# Altium schematic symbol library BWRC.SchLib: 201 symbols (part 3 of 6)
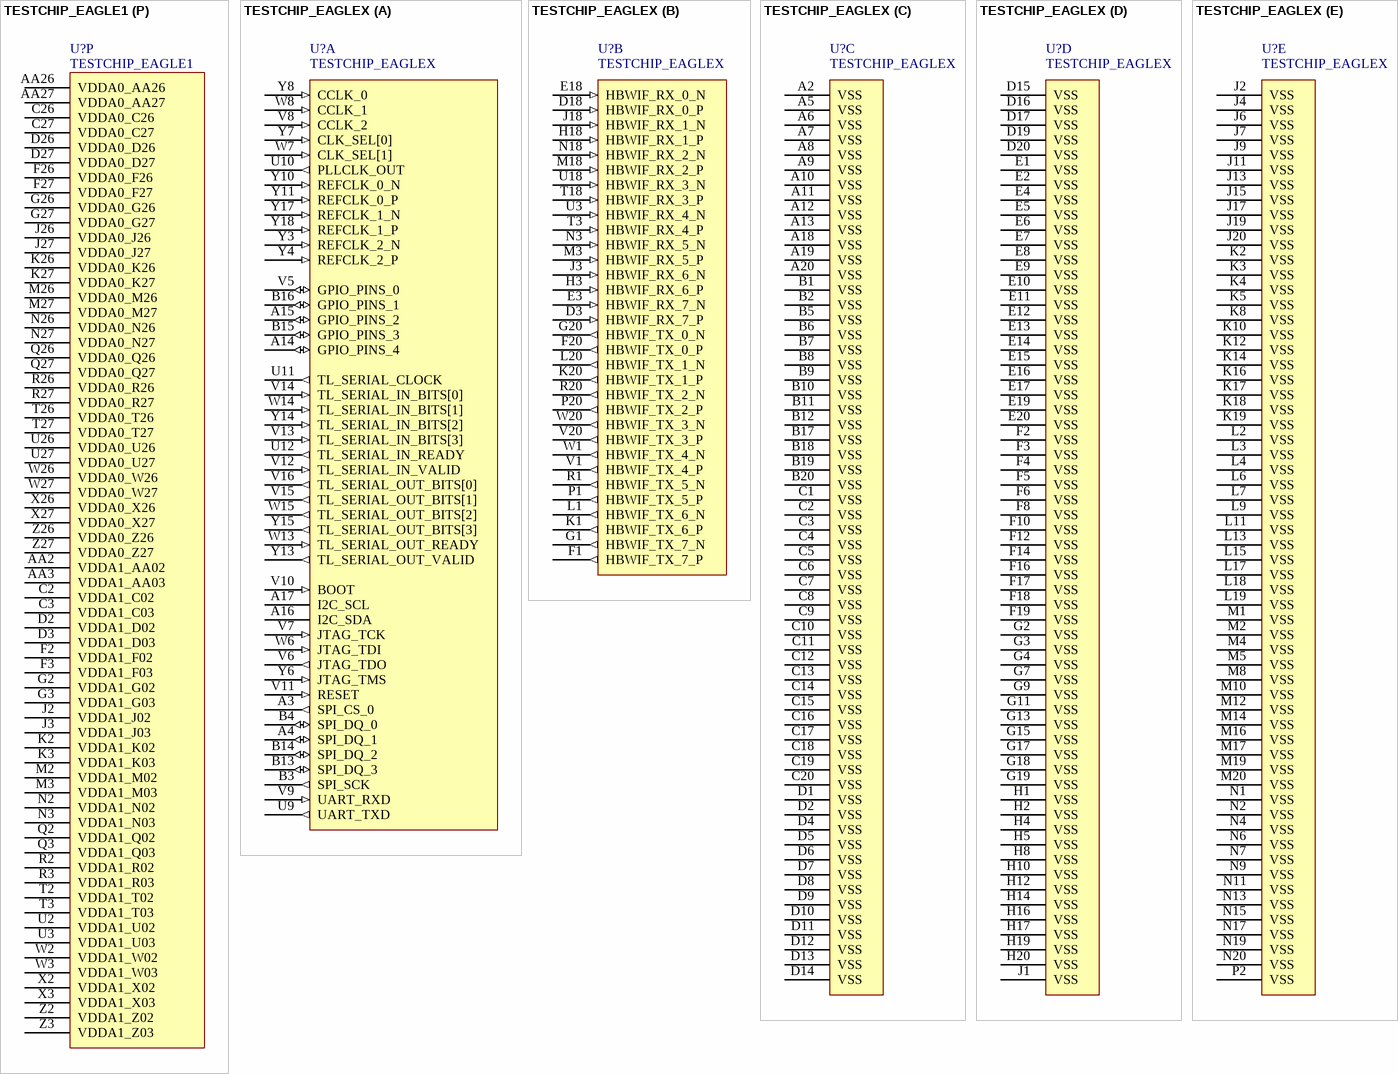
[diagram p33: symbols TESTCHIP_EAGLE1 to TESTCHIP_EAGLEX]

## TESTCHIP_EAGLE1
designator U?
TESTCHIP EAGLE1
part A pins: A2 gpio_0_pins_13 (io) "General-Purpose Programmable IO", A3 spi_cs_0 (out) "SPI Chip Select", A4 spi_dq_1 (in) "SPI MISO (Master In, Slave Out)", A5 spi_dq_0 (out) "SPI MOSI (Master Out, Slave In)", A6 spi_sck (out) "SPI Clock", A7 i2c_scl (out) "I2C Clock", A8 i2c_sda (out) "I2C Data", A9 boot (in) "Active-High Boot From SD Card", A10 reset (in) "SPI Reset", A11 jtag_tdi (in) "JTAG Test Data In", A12 jtag_tdo (out) "JTAG Test Data Out", A13 jtag_tck (in) "JTAG Clock", A14 jtag_tms (in) "JTAG Test Mode Select", A15 gpio_0_pins_12 (io) "General-Purpose Programmable IO", A16 gpio_0_pins_11 (io) "General-Purpose Programmable IO", A17 gpio_0_pins_10 (io) "General-Purpose Programmable IO", A18 gpio_0_pins_9 (io) "General-Purpose Programmable IO", A19 gpio_0_pins_8 (io) "General-Purpose Programmable IO", A20 gpio_0_pins_7 (io) "General-Purpose Programmable IO", A21 gpio_0_pins_6 (io) "General-Purpose Programmable IO", A22 gpio_0_pins_5 (io) "General-Purpose Programmable IO", A23 gpio_0_pins_4 (io) "General-Purpose Programmable IO", A24 gpio_0_pins_3 (io) "General-Purpose Programmable IO", A25 gpio_0_pins_2 (io) "General-Purpose Programmable IO", A26 gpio_0_pins_1 (io) "General-Purpose Programmable IO", A27 gpio_0_pins_0 (io) "General-Purpose Programmable IO", AC1 gpio_0_pins_14 (io) "General-Purpose Programmable IO", AC9 clk_sel[1] (in) "Uncluster Clock Select Bit 1", AC10 tl_serial_out_ready (in) "LBWIF Data Out Ready", AC13 tl_serial_out_valid (out) "LBWIF Data Out Valid", AC17 tl_serial_in_valid (in) "LBWIF Data In Valid", AC21 tl_serial_in_ready (out) "LBWIF Data In Ready", AC28 tl_serial_clock (out) "LBWIF Clock", AD3 refclk_1_n (in) "HBWIF Bank 1 Reference Clock (+)", AD4 refclk_1_p (in) "HBWIF Bank 1 Reference Clock (-)", AD6 refclk_2_n (in) "PLL Reference Clock (+)", AD7 refclk_2_p (in) "PLL Reference Clock (-)", AD9 pllclk_out (out) "PLL Clock Out", AD10 clk_sel[0] (in) "Uncluster Clock Select Bit 0", AD11 cclk_2 (in) "Cluster Backup Clock 2", AD12 cclk_1 (in) "Cluster Backup Clock 1", AD13 cclk_0 (in) "Cluster Backup Clock 0", AD14 uart_txd (out) "UART TX", AD15 uart_rxd (in) "UART RX", AD16 tl_serial_in_bits[3] (in) "LBWIF Data In Bit 3", AD17 tl_serial_in_bits[2] (in) "LBWIF Data In Bit 2", AD18 tl_serial_in_bits[1] (in) "LBWIF Data In Bit 1", AD19 tl_serial_in_bits[0] (in) "LBWIF Data In Bit 0", AD20 tl_serial_out_bits[3] (out) "LBWIF Data Out Bit 3", AD21 tl_serial_out_bits[2] (out) "LBWIF Data Out Bit 2", AD22 tl_serial_out_bits[1] (out) "LBWIF Data Out Bit 1", AD23 tl_serial_out_bits[0] (out) "LBWIF Data Out Bit 0", AD25 refclk_0_n (in) "HBWIF Bank 0 Reference Clock (+)", AD26 refclk_0_p (in) "HBWIF Bank 0 Reference Clock (-)"
part B pins: AA1 rx_7_n (in) "HBWIF RX Lane 7 (-)", AA28 rx_3_n (in) "HBWIF RX Lane 3 (-)", C1 tx_4_p (out) "HBWIF TX Lane 4 (+)", C28 tx_0_p (out) "HBWIF TX Lane 0 (+)", D1 tx_4_n (out) "HBWIF TX Lane 4 (-)", D28 tx_0_n (out) "HBWIF TX Lane 0 (-)", F1 rx_4_p (in) "HBWIF RX Lane 4 (+)", F28 rx_0_p (in) "HBWIF RX Lane 0 (+)", G1 rx_4_n (in) "HBWIF RX Lane 4 (-)", G28 rx_0_n (in) "HBWIF RX Lane 0 (-)", J1 tx_5_p (out) "HBWIF TX Lane 5 (+)", J28 tx_1_p (out) "HBWIF TX Lane 1 (+)", K1 tx_5_n (out) "HBWIF TX Lane 5 (-)", K28 tx_1_n (out) "HBWIF TX Lane 1 (-)", M1 rx_5_p (in) "HBWIF RX Lane 5 (+)", M28 rx_1_p (in) "HBWIF RX Lane 1 (+)", N1 rx_5_n (in) "HBWIF RX Lane 5 (-)", N28 rx_1_n (in) "HBWIF RX Lane 1 (-)", Q1 tx_6_p (out) "HBWIF TX Lane 6 (+)", Q28 tx_2_p (out) "HBWIF TX Lane 2 (+)", R1 tx_6_n (out) "HBWIF TX Lane 6 (-)", R28 tx_2_n (out) "HBWIF TX Lane 2 (-)", T1 rx_6_p (in) "HBWIF RX Lane 6 (+)", T28 rx_2_p (in) "HBWIF RX Lane 2 (+)", U1 rx_6_n (in) "HBWIF RX Lane 6 (-)", U28 rx_2_n (in) "HBWIF RX Lane 2 (-)", W1 tx_7_p (out) "HBWIF TX Lane 7 (+)", W28 tx_3_p (out) "HBWIF TX Lane 3 (+)", X1 tx_7_n (out) "HBWIF TX Lane 7 (-)", X28 tx_3_n (out) "HBWIF TX Lane 3 (-)", Z1 rx_7_p (in) "HBWIF RX Lane 7 (+)", Z28 rx_3_p (in) "HBWIF RX Lane 3 (+)"
part C pins: AA4 GND_AA04 (power) "Ground bump (0.0V)", AA25 GND_AA25 (power) "Ground bump (0.0V)", AB1 GND_AB01 (power) "Ground bump (0.0V)", AB28 GND_AB28 (power) "Ground bump (0.0V)", AC2 GND_AC02 (power) "Ground bump (0.0V)", AC3 GND_AC03 (power) "Ground bump (0.0V)", AC4 GND_AC04 (power) "Ground bump (0.0V)", AC5 GND_AC05 (power) "Ground bump (0.0V)", AC6 GND_AC06 (power) "Ground bump (0.0V)", AC7 GND_AC07 (power) "Ground bump (0.0V)", AC8 GND_AC08 (power) "Ground bump (0.0V)", AC11 GND_AC11 (power) "Ground bump (0.0V)", AC12 GND_AC12 (power) "Ground bump (0.0V)", AC14 GND_AC14 (power) "Ground bump (0.0V)", AC15 GND_AC15 (power) "Ground bump (0.0V)", AC16 GND_AC16 (power) "Ground bump (0.0V)", AC18 GND_AC18 (power) "Ground bump (0.0V)", AC19 GND_AC19 (power) "Ground bump (0.0V)", AC20 GND_AC20 (power) "Ground bump (0.0V)", AC22 GND_AC22 (power) "Ground bump (0.0V)", AC23 GND_AC23 (power) "Ground bump (0.0V)", AC24 GND_AC24 (power) "Ground bump (0.0V)", AC25 GND_AC25 (power) "Ground bump (0.0V)", AC26 GND_AC26 (power) "Ground bump (0.0V)", AC27 GND_AC27 (power) "Ground bump (0.0V)", AD2 GND_AD02 (power) "Ground bump (0.0V)", AD5 GND_AD05 (power) "Ground bump (0.0V)", AD8 GND_AD08 (power) "Ground bump (0.0V)", AD24 GND_AD24 (power) "Ground bump (0.0V)", AD27 GND_AD27 (power) "Ground bump (0.0V)", B1 GND_B01 (power) "Ground bump (0.0V)", B2 GND_B02 (power) "Ground bump (0.0V)", B3 GND_B03 (power) "Ground bump (0.0V)", B4 GND_B04 (power) "Ground bump (0.0V)", B5 GND_B05 (power) "Ground bump (0.0V)", B6 GND_B06 (power) "Ground bump (0.0V)", B7 GND_B07 (power) "Ground bump (0.0V)", B8 GND_B08 (power) "Ground bump (0.0V)", B9 GND_B09 (power) "Ground bump (0.0V)", B10 GND_B10 (power) "Ground bump (0.0V)", B11 GND_B11 (power) "Ground bump (0.0V)", B12 GND_B12 (power) "Ground bump (0.0V)", B13 GND_B13 (power) "Ground bump (0.0V)", B14 GND_B14 (power) "Ground bump (0.0V)", B15 GND_B15 (power) "Ground bump (0.0V)", B16 GND_B16 (power) "Ground bump (0.0V)", B17 GND_B17 (power) "Ground bump (0.0V)", B18 GND_B18 (power) "Ground bump (0.0V)", B19 GND_B19 (power) "Ground bump (0.0V)", B20 GND_B20 (power) "Ground bump (0.0V)"
part D pins: B21 GND_B21 (power) "Ground bump (0.0V)", B22 GND_B22 (power) "Ground bump (0.0V)", B23 GND_B23 (power) "Ground bump (0.0V)", B24 GND_B24 (power) "Ground bump (0.0V)", B25 GND_B25 (power) "Ground bump (0.0V)", B26 GND_B26 (power) "Ground bump (0.0V)", B27 GND_B27 (power) "Ground bump (0.0V)", B28 GND_B28 (power) "Ground bump (0.0V)", C4 GND_C04 (power) "Ground bump (0.0V)", C13 GND_C13 (power) "Ground bump (0.0V)", C14 GND_C14 (power) "Ground bump (0.0V)", C15 GND_C15 (power) "Ground bump (0.0V)", C16 GND_C16 (power) "Ground bump (0.0V)", C25 GND_C25 (power) "Ground bump (0.0V)", D4 GND_D04 (power) "Ground bump (0.0V)", D13 GND_D13 (power) "Ground bump (0.0V)", D14 GND_D14 (power) "Ground bump (0.0V)", D15 GND_D15 (power) "Ground bump (0.0V)", D16 GND_D16 (power) "Ground bump (0.0V)", D25 GND_D25 (power) "Ground bump (0.0V)", E1 GND_E01 (power) "Ground bump (0.0V)", E7 GND_E07 (power) "Ground bump (0.0V)", E8 GND_E08 (power) "Ground bump (0.0V)", E11 GND_E11 (power) "Ground bump (0.0V)", E12 GND_E12 (power) "Ground bump (0.0V)", E15 GND_E15 (power) "Ground bump (0.0V)", E16 GND_E16 (power) "Ground bump (0.0V)", E19 GND_E19 (power) "Ground bump (0.0V)", E20 GND_E20 (power) "Ground bump (0.0V)", E28 GND_E28 (power) "Ground bump (0.0V)", F4 GND_F04 (power) "Ground bump (0.0V)", F7 GND_F07 (power) "Ground bump (0.0V)", F8 GND_F08 (power) "Ground bump (0.0V)", F11 GND_F11 (power) "Ground bump (0.0V)", F12 GND_F12 (power) "Ground bump (0.0V)", F15 GND_F15 (power) "Ground bump (0.0V)", F16 GND_F16 (power) "Ground bump (0.0V)", F19 GND_F19 (power) "Ground bump (0.0V)", F20 GND_F20 (power) "Ground bump (0.0V)", F25 GND_F25 (power) "Ground bump (0.0V)", G4 GND_G04 (power) "Ground bump (0.0V)", G7 GND_G07 (power) "Ground bump (0.0V)", G8 GND_G08 (power) "Ground bump (0.0V)", G11 GND_G11 (power) "Ground bump (0.0V)", G12 GND_G12 (power) "Ground bump (0.0V)", G15 GND_G15 (power) "Ground bump (0.0V)", G16 GND_G16 (power) "Ground bump (0.0V)", G19 GND_G19 (power) "Ground bump (0.0V)", G20 GND_G20 (power) "Ground bump (0.0V)", G25 GND_G25 (power) "Ground bump (0.0V)"
part E pins: H1 GND_H01 (power) "Ground bump (0.0V)", H7 GND_H07 (power) "Ground bump (0.0V)", H8 GND_H08 (power) "Ground bump (0.0V)", H11 GND_H11 (power) "Ground bump (0.0V)", H12 GND_H12 (power) "Ground bump (0.0V)", H15 GND_H15 (power) "Ground bump (0.0V)", H16 GND_H16 (power) "Ground bump (0.0V)", H19 GND_H19 (power) "Ground bump (0.0V)", H20 GND_H20 (power) "Ground bump (0.0V)", H28 GND_H28 (power) "Ground bump (0.0V)", J4 GND_J04 (power) "Ground bump (0.0V)", J5 GND_J05 (power) "Ground bump (0.0V)", J6 GND_J06 (power) "Ground bump (0.0V)", J9 GND_J09 (power) "Ground bump (0.0V)", J10 GND_J10 (power) "Ground bump (0.0V)", J13 GND_J13 (power) "Ground bump (0.0V)", J14 GND_J14 (power) "Ground bump (0.0V)", J17 GND_J17 (power) "Ground bump (0.0V)", J18 GND_J18 (power) "Ground bump (0.0V)", J21 GND_J21 (power) "Ground bump (0.0V)", J22 GND_J22 (power) "Ground bump (0.0V)", J23 GND_J23 (power) "Ground bump (0.0V)", J24 GND_J24 (power) "Ground bump (0.0V)", J25 GND_J25 (power) "Ground bump (0.0V)", K4 GND_K04 (power) "Ground bump (0.0V)", K5 GND_K05 (power) "Ground bump (0.0V)", K6 GND_K06 (power) "Ground bump (0.0V)", K9 GND_K09 (power) "Ground bump (0.0V)", K10 GND_K10 (power) "Ground bump (0.0V)", K13 GND_K13 (power) "Ground bump (0.0V)", K14 GND_K14 (power) "Ground bump (0.0V)", K17 GND_K17 (power) "Ground bump (0.0V)", K18 GND_K18 (power) "Ground bump (0.0V)", K21 GND_K21 (power) "Ground bump (0.0V)", K22 GND_K22 (power) "Ground bump (0.0V)", K23 GND_K23 (power) "Ground bump (0.0V)", K24 GND_K24 (power) "Ground bump (0.0V)", K25 GND_K25 (power) "Ground bump (0.0V)", L1 GND_L01 (power) "Ground bump (0.0V)", L5 GND_L05 (power) "Ground bump (0.0V)", L6 GND_L06 (power) "Ground bump (0.0V)", L9 GND_L09 (power) "Ground bump (0.0V)", L10 GND_L10 (power) "Ground bump (0.0V)", L13 GND_L13 (power) "Ground bump (0.0V)", L14 GND_L14 (power) "Ground bump (0.0V)", L17 GND_L17 (power) "Ground bump (0.0V)", L18 GND_L18 (power) "Ground bump (0.0V)", L21 GND_L21 (power) "Ground bump (0.0V)", L22 GND_L22 (power) "Ground bump (0.0V)", L23 GND_L23 (power) "Ground bump (0.0V)"
part F pins: L24 GND_L24 (power) "Ground bump (0.0V)", L28 GND_L28 (power) "Ground bump (0.0V)", M4 GND_M04 (power) "Ground bump (0.0V)", M5 GND_M05 (power) "Ground bump (0.0V)", M6 GND_M06 (power) "Ground bump (0.0V)", M9 GND_M09 (power) "Ground bump (0.0V)", M10 GND_M10 (power) "Ground bump (0.0V)", M13 GND_M13 (power) "Ground bump (0.0V)", M14 GND_M14 (power) "Ground bump (0.0V)", M17 GND_M17 (power) "Ground bump (0.0V)", M18 GND_M18 (power) "Ground bump (0.0V)", M21 GND_M21 (power) "Ground bump (0.0V)", M22 GND_M22 (power) "Ground bump (0.0V)", M23 GND_M23 (power) "Ground bump (0.0V)", M24 GND_M24 (power) "Ground bump (0.0V)", M25 GND_M25 (power) "Ground bump (0.0V)", N4 GND_N04 (power) "Ground bump (0.0V)", N7 GND_N07 (power) "Ground bump (0.0V)", N8 GND_N08 (power) "Ground bump (0.0V)", N11 GND_N11 (power) "Ground bump (0.0V)", N12 GND_N12 (power) "Ground bump (0.0V)", N15 GND_N15 (power) "Ground bump (0.0V)", N16 GND_N16 (power) "Ground bump (0.0V)", N19 GND_N19 (power) "Ground bump (0.0V)", N20 GND_N20 (power) "Ground bump (0.0V)", N25 GND_N25 (power) "Ground bump (0.0V)", P1 GND_P01 (power) "Ground bump (0.0V)", P7 GND_P07 (power) "Ground bump (0.0V)", P8 GND_P08 (power) "Ground bump (0.0V)", P11 GND_P11 (power) "Ground bump (0.0V)", P12 GND_P12 (power) "Ground bump (0.0V)", P15 GND_P15 (power) "Ground bump (0.0V)", P16 GND_P16 (power) "Ground bump (0.0V)", P19 GND_P19 (power) "Ground bump (0.0V)", P20 GND_P20 (power) "Ground bump (0.0V)", P28 GND_P28 (power) "Ground bump (0.0V)", Q4 GND_Q04 (power) "Ground bump (0.0V)", Q7 GND_Q07 (power) "Ground bump (0.0V)", Q8 GND_Q08 (power) "Ground bump (0.0V)", Q11 GND_Q11 (power) "Ground bump (0.0V)", Q12 GND_Q12 (power) "Ground bump (0.0V)", Q15 GND_Q15 (power) "Ground bump (0.0V)", Q16 GND_Q16 (power) "Ground bump (0.0V)", Q19 GND_Q19 (power) "Ground bump (0.0V)", Q20 GND_Q20 (power) "Ground bump (0.0V)", Q25 GND_Q25 (power) "Ground bump (0.0V)", R4 GND_R04 (power) "Ground bump (0.0V)", R7 GND_R07 (power) "Ground bump (0.0V)", R8 GND_R08 (power) "Ground bump (0.0V)", R11 GND_R11 (power) "Ground bump (0.0V)"
part G pins: R12 GND_R12 (power) "Ground bump (0.0V)", R15 GND_R15 (power) "Ground bump (0.0V)", R16 GND_R16 (power) "Ground bump (0.0V)", R19 GND_R19 (power) "Ground bump (0.0V)", R20 GND_R20 (power) "Ground bump (0.0V)", R25 GND_R25 (power) "Ground bump (0.0V)", S1 GND_S01 (power) "Ground bump (0.0V)", S5 GND_S05 (power) "Ground bump (0.0V)", S6 GND_S06 (power) "Ground bump (0.0V)", S7 GND_S07 (power) "Ground bump (0.0V)", S8 GND_S08 (power) "Ground bump (0.0V)", S13 GND_S13 (power) "Ground bump (0.0V)", S14 GND_S14 (power) "Ground bump (0.0V)", S15 GND_S15 (power) "Ground bump (0.0V)", S16 GND_S16 (power) "Ground bump (0.0V)", S21 GND_S21 (power) "Ground bump (0.0V)", S22 GND_S22 (power) "Ground bump (0.0V)", S23 GND_S23 (power) "Ground bump (0.0V)", S24 GND_S24 (power) "Ground bump (0.0V)", S28 GND_S28 (power) "Ground bump (0.0V)", T4 GND_T04 (power) "Ground bump (0.0V)", T5 GND_T05 (power) "Ground bump (0.0V)", T6 GND_T06 (power) "Ground bump (0.0V)", T7 GND_T07 (power) "Ground bump (0.0V)", T8 GND_T08 (power) "Ground bump (0.0V)", T13 GND_T13 (power) "Ground bump (0.0V)", T14 GND_T14 (power) "Ground bump (0.0V)", T15 GND_T15 (power) "Ground bump (0.0V)", T16 GND_T16 (power) "Ground bump (0.0V)", T21 GND_T21 (power) "Ground bump (0.0V)", T22 GND_T22 (power) "Ground bump (0.0V)", T23 GND_T23 (power) "Ground bump (0.0V)", T24 GND_T24 (power) "Ground bump (0.0V)", T25 GND_T25 (power) "Ground bump (0.0V)", U4 GND_U04 (power) "Ground bump (0.0V)", U9 GND_U09 (power) "Ground bump (0.0V)", U10 GND_U10 (power) "Ground bump (0.0V)", U11 GND_U11 (power) "Ground bump (0.0V)", U12 GND_U12 (power) "Ground bump (0.0V)", U17 GND_U17 (power) "Ground bump (0.0V)", U18 GND_U18 (power) "Ground bump (0.0V)", U19 GND_U19 (power) "Ground bump (0.0V)", U20 GND_U20 (power) "Ground bump (0.0V)", U25 GND_U25 (power) "Ground bump (0.0V)", V1 GND_V01 (power) "Ground bump (0.0V)", V9 GND_V09 (power) "Ground bump (0.0V)", V10 GND_V10 (power) "Ground bump (0.0V)", V11 GND_V11 (power) "Ground bump (0.0V)", V12 GND_V12 (power) "Ground bump (0.0V)", V17 GND_V17 (power) "Ground bump (0.0V)"
part H pins: V18 GND_V18 (power) "Ground bump (0.0V)", V19 GND_V19 (power) "Ground bump (0.0V)", V20 GND_V20 (power) "Ground bump (0.0V)", V28 GND_V28 (power) "Ground bump (0.0V)", W4 GND_W04 (power) "Ground bump (0.0V)", W5 GND_W05 (power) "Ground bump (0.0V)", W6 GND_W06 (power) "Ground bump (0.0V)", W7 GND_W07 (power) "Ground bump (0.0V)", W8 GND_W08 (power) "Ground bump (0.0V)", W13 GND_W13 (power) "Ground bump (0.0V)", W14 GND_W14 (power) "Ground bump (0.0V)", W15 GND_W15 (power) "Ground bump (0.0V)", W16 GND_W16 (power) "Ground bump (0.0V)", W21 GND_W21 (power) "Ground bump (0.0V)", W22 GND_W22 (power) "Ground bump (0.0V)", W23 GND_W23 (power) "Ground bump (0.0V)", W24 GND_W24 (power) "Ground bump (0.0V)", W25 GND_W25 (power) "Ground bump (0.0V)", X4 GND_X04 (power) "Ground bump (0.0V)", X5 GND_X05 (power) "Ground bump (0.0V)", X6 GND_X06 (power) "Ground bump (0.0V)", X7 GND_X07 (power) "Ground bump (0.0V)", X8 GND_X08 (power) "Ground bump (0.0V)", X13 GND_X13 (power) "Ground bump (0.0V)", X14 GND_X14 (power) "Ground bump (0.0V)", X15 GND_X15 (power) "Ground bump (0.0V)", X16 GND_X16 (power) "Ground bump (0.0V)", X21 GND_X21 (power) "Ground bump (0.0V)", X22 GND_X22 (power) "Ground bump (0.0V)", X23 GND_X23 (power) "Ground bump (0.0V)", X24 GND_X24 (power) "Ground bump (0.0V)", X25 GND_X25 (power) "Ground bump (0.0V)", Y1 GND_Y01 (power) "Ground bump (0.0V)", Y13 GND_Y13 (power) "Ground bump (0.0V)", Y14 GND_Y14 (power) "Ground bump (0.0V)", Y15 GND_Y15 (power) "Ground bump (0.0V)", Y16 GND_Y16 (power) "Ground bump (0.0V)", Y28 GND_Y28 (power) "Ground bump (0.0V)", Z4 GND_Z04 (power) "Ground bump (0.0V)", Z13 GND_Z13 (power) "Ground bump (0.0V)", Z14 GND_Z14 (power) "Ground bump (0.0V)", Z15 GND_Z15 (power) "Ground bump (0.0V)", Z16 GND_Z16 (power) "Ground bump (0.0V)", Z25 GND_Z25 (power) "Ground bump (0.0V)"
part I pins: C9 VDD0V8_C09 (power) "Uncluster VDD (0.8V)", C10 VDD0V8_C10 (power) "Uncluster VDD (0.8V)", C11 VDD0V8_C11 (power) "Uncluster VDD (0.8V)", C12 VDD0V8_C12 (power) "Uncluster VDD (0.8V)", C17 VDD0V8_C17 (power) "Uncluster VDD (0.8V)", C18 VDD0V8_C18 (power) "Uncluster VDD (0.8V)", C19 VDD0V8_C19 (power) "Uncluster VDD (0.8V)", C20 VDD0V8_C20 (power) "Uncluster VDD (0.8V)", D9 VDD0V8_D09 (power) "Uncluster VDD (0.8V)", D10 VDD0V8_D10 (power) "Uncluster VDD (0.8V)", D11 VDD0V8_D11 (power) "Uncluster VDD (0.8V)", D12 VDD0V8_D12 (power) "Uncluster VDD (0.8V)", D17 VDD0V8_D17 (power) "Uncluster VDD (0.8V)", D18 VDD0V8_D18 (power) "Uncluster VDD (0.8V)", D19 VDD0V8_D19 (power) "Uncluster VDD (0.8V)", D20 VDD0V8_D20 (power) "Uncluster VDD (0.8V)", E5 VDD0V8_E05 (power) "Uncluster VDD (0.8V)", E6 VDD0V8_E06 (power) "Uncluster VDD (0.8V)", E23 VDD0V8_E23 (power) "Uncluster VDD (0.8V)", E24 VDD0V8_E24 (power) "Uncluster VDD (0.8V)", F5 VDD0V8_F05 (power) "Uncluster VDD (0.8V)", F6 VDD0V8_F06 (power) "Uncluster VDD (0.8V)", F23 VDD0V8_F23 (power) "Uncluster VDD (0.8V)", F24 VDD0V8_F24 (power) "Uncluster VDD (0.8V)", G5 VDD0V8_G05 (power) "Uncluster VDD (0.8V)", G6 VDD0V8_G06 (power) "Uncluster VDD (0.8V)", G23 VDD0V8_G23 (power) "Uncluster VDD (0.8V)", G24 VDD0V8_G24 (power) "Uncluster VDD (0.8V)", H5 VDD0V8_H05 (power) "Uncluster VDD (0.8V)", H6 VDD0V8_H06 (power) "Uncluster VDD (0.8V)", H23 VDD0V8_H23 (power) "Uncluster VDD (0.8V)", H24 VDD0V8_H24 (power) "Uncluster VDD (0.8V)", N5 VDD0V8_N05 (power) "Uncluster VDD (0.8V)", N6 VDD0V8_N06 (power) "Uncluster VDD (0.8V)", N23 VDD0V8_N23 (power) "Uncluster VDD (0.8V)", N24 VDD0V8_N24 (power) "Uncluster VDD (0.8V)", P5 VDD0V8_P05 (power) "Uncluster VDD (0.8V)", P6 VDD0V8_P06 (power) "Uncluster VDD (0.8V)", P23 VDD0V8_P23 (power) "Uncluster VDD (0.8V)", P24 VDD0V8_P24 (power) "Uncluster VDD (0.8V)", Q5 VDD0V8_Q05 (power) "Uncluster VDD (0.8V)", Q6 VDD0V8_Q06 (power) "Uncluster VDD (0.8V)", Q23 VDD0V8_Q23 (power) "Uncluster VDD (0.8V)", Q24 VDD0V8_Q24 (power) "Uncluster VDD (0.8V)", R5 VDD0V8_R05 (power) "Uncluster VDD (0.8V)", R6 VDD0V8_R06 (power) "Uncluster VDD (0.8V)", R23 VDD0V8_R23 (power) "Uncluster VDD (0.8V)", R24 VDD0V8_R24 (power) "Uncluster VDD (0.8V)", S9 VDD0V8_S09 (power) "Uncluster VDD (0.8V)", S10 VDD0V8_S10 (power) "Uncluster VDD (0.8V)", S11 VDD0V8_S11 (power) "Uncluster VDD (0.8V)", S12 VDD0V8_S12 (power) "Uncluster VDD (0.8V)", S17 VDD0V8_S17 (power) "Uncluster VDD (0.8V)", S18 VDD0V8_S18 (power) "Uncluster VDD (0.8V)", S19 VDD0V8_S19 (power) "Uncluster VDD (0.8V)", S20 VDD0V8_S20 (power) "Uncluster VDD (0.8V)", T9 VDD0V8_T09 (power) "Uncluster VDD (0.8V)", T10 VDD0V8_T10 (power) "Uncluster VDD (0.8V)", T11 VDD0V8_T11 (power) "Uncluster VDD (0.8V)", T12 VDD0V8_T12 (power) "Uncluster VDD (0.8V)"
part J pins: T17 VDD0V8_T17 (power) "Uncluster VDD (0.8V)", T18 VDD0V8_T18 (power) "Uncluster VDD (0.8V)", T19 VDD0V8_T19 (power) "Uncluster VDD (0.8V)", T20 VDD0V8_T20 (power) "Uncluster VDD (0.8V)", U5 VDD0V8_U05 (power) "Uncluster VDD (0.8V)", U6 VDD0V8_U06 (power) "Uncluster VDD (0.8V)", U7 VDD0V8_U07 (power) "Uncluster VDD (0.8V)", U8 VDD0V8_U08 (power) "Uncluster VDD (0.8V)", U13 VDD0V8_U13 (power) "Uncluster VDD (0.8V)", U14 VDD0V8_U14 (power) "Uncluster VDD (0.8V)", U15 VDD0V8_U15 (power) "Uncluster VDD (0.8V)", U16 VDD0V8_U16 (power) "Uncluster VDD (0.8V)", U21 VDD0V8_U21 (power) "Uncluster VDD (0.8V)", U22 VDD0V8_U22 (power) "Uncluster VDD (0.8V)", U23 VDD0V8_U23 (power) "Uncluster VDD (0.8V)", U24 VDD0V8_U24 (power) "Uncluster VDD (0.8V)", V5 VDD0V8_V05 (power) "Uncluster VDD (0.8V)", V6 VDD0V8_V06 (power) "Uncluster VDD (0.8V)", V7 VDD0V8_V07 (power) "Uncluster VDD (0.8V)", V8 VDD0V8_V08 (power) "Uncluster VDD (0.8V)", V13 VDD0V8_V13 (power) "Uncluster VDD (0.8V)", V14 VDD0V8_V14 (power) "Uncluster VDD (0.8V)", V15 VDD0V8_V15 (power) "Uncluster VDD (0.8V)", V16 VDD0V8_V16 (power) "Uncluster VDD (0.8V)", V21 VDD0V8_V21 (power) "Uncluster VDD (0.8V)", V22 VDD0V8_V22 (power) "Uncluster VDD (0.8V)", V23 VDD0V8_V23 (power) "Uncluster VDD (0.8V)", V24 VDD0V8_V24 (power) "Uncluster VDD (0.8V)", W9 VDD0V8_W09 (power) "Uncluster VDD (0.8V)", W10 VDD0V8_W10 (power) "Uncluster VDD (0.8V)", W11 VDD0V8_W11 (power) "Uncluster VDD (0.8V)", W12 VDD0V8_W12 (power) "Uncluster VDD (0.8V)", W17 VDD0V8_W17 (power) "Uncluster VDD (0.8V)", W18 VDD0V8_W18 (power) "Uncluster VDD (0.8V)", W19 VDD0V8_W19 (power) "Uncluster VDD (0.8V)", W20 VDD0V8_W20 (power) "Uncluster VDD (0.8V)", X9 VDD0V8_X09 (power) "Uncluster VDD (0.8V)", X10 VDD0V8_X10 (power) "Uncluster VDD (0.8V)", X11 VDD0V8_X11 (power) "Uncluster VDD (0.8V)", X12 VDD0V8_X12 (power) "Uncluster VDD (0.8V)", X17 VDD0V8_X17 (power) "Uncluster VDD (0.8V)", X18 VDD0V8_X18 (power) "Uncluster VDD (0.8V)", X19 VDD0V8_X19 (power) "Uncluster VDD (0.8V)", X20 VDD0V8_X20 (power) "Uncluster VDD (0.8V)", Y5 VDD0V8_Y05 (power) "Uncluster VDD (0.8V)", Y6 VDD0V8_Y06 (power) "Uncluster VDD (0.8V)", Y7 VDD0V8_Y07 (power) "Uncluster VDD (0.8V)", Y8 VDD0V8_Y08 (power) "Uncluster VDD (0.8V)", Y21 VDD0V8_Y21 (power) "Uncluster VDD (0.8V)", Y22 VDD0V8_Y22 (power) "Uncluster VDD (0.8V)", Y23 VDD0V8_Y23 (power) "Uncluster VDD (0.8V)", Y24 VDD0V8_Y24 (power) "Uncluster VDD (0.8V)", Z5 VDD0V8_Z05 (power) "Uncluster VDD (0.8V)", Z6 VDD0V8_Z06 (power) "Uncluster VDD (0.8V)", Z7 VDD0V8_Z07 (power) "Uncluster VDD (0.8V)", Z8 VDD0V8_Z08 (power) "Uncluster VDD (0.8V)", Z21 VDD0V8_Z21 (power) "Uncluster VDD (0.8V)", Z22 VDD0V8_Z22 (power) "Uncluster VDD (0.8V)", Z23 VDD0V8_Z23 (power) "Uncluster VDD (0.8V)", Z24 VDD0V8_Z24 (power) "Uncluster VDD (0.8V)"
part K pins: C5 VDD1V8_C05 (power) "I/O VDD (1.8V)", C6 VDD1V8_C06 (power) "I/O VDD (1.8V)", C7 VDD1V8_C07 (power) "I/O VDD (1.8V)", C8 VDD1V8_C08 (power) "I/O VDD (1.8V)", C21 VDD1V8_C21 (power) "I/O VDD (1.8V)", C22 VDD1V8_C22 (power) "I/O VDD (1.8V)", C23 VDD1V8_C23 (power) "I/O VDD (1.8V)", C24 VDD1V8_C24 (power) "I/O VDD (1.8V)", D5 VDD1V8_D05 (power) "I/O VDD (1.8V)", D6 VDD1V8_D06 (power) "I/O VDD (1.8V)", D7 VDD1V8_D07 (power) "I/O VDD (1.8V)", D8 VDD1V8_D08 (power) "I/O VDD (1.8V)", D21 VDD1V8_D21 (power) "I/O VDD (1.8V)", D22 VDD1V8_D22 (power) "I/O VDD (1.8V)", D23 VDD1V8_D23 (power) "I/O VDD (1.8V)", D24 VDD1V8_D24 (power) "I/O VDD (1.8V)", Y9 VDD1V8_Y09 (power) "I/O VDD (1.8V)", Y10 VDD1V8_Y10 (power) "I/O VDD (1.8V)", Y11 VDD1V8_Y11 (power) "I/O VDD (1.8V)", Y12 VDD1V8_Y12 (power) "I/O VDD (1.8V)", Y17 VDD1V8_Y17 (power) "I/O VDD (1.8V)", Y18 VDD1V8_Y18 (power) "I/O VDD (1.8V)", Y19 VDD1V8_Y19 (power) "I/O VDD (1.8V)", Y20 VDD1V8_Y20 (power) "I/O VDD (1.8V)", Z9 VDD1V8_Z09 (power) "I/O VDD (1.8V)", Z10 VDD1V8_Z10 (power) "I/O VDD (1.8V)", Z11 VDD1V8_Z11 (power) "I/O VDD (1.8V)", Z12 VDD1V8_Z12 (power) "I/O VDD (1.8V)", Z17 VDD1V8_Z17 (power) "I/O VDD (1.8V)", Z18 VDD1V8_Z18 (power) "I/O VDD (1.8V)", Z19 VDD1V8_Z19 (power) "I/O VDD (1.8V)", Z20 VDD1V8_Z20 (power) "I/O VDD (1.8V)"
part L pins: E21 VDDC0_E21 (power) "Cluster 0 VDD (0.8V)", E22 VDDC0_E22 (power) "Cluster 0 VDD (0.8V)", F21 VDDC0_F21 (power) "Cluster 0 VDD (0.8V)", F22 VDDC0_F22 (power) "Cluster 0 VDD (0.8V)", G21 VDDC0_G21 (power) "Cluster 0 VDD (0.8V)", G22 VDDC0_G22 (power) "Cluster 0 VDD (0.8V)", H21 VDDC0_H21 (power) "Cluster 0 VDD (0.8V)", H22 VDDC0_H22 (power) "Cluster 0 VDD (0.8V)", J19 VDDC0_J19 (power) "Cluster 0 VDD (0.8V)", J20 VDDC0_J20 (power) "Cluster 0 VDD (0.8V)", K19 VDDC0_K19 (power) "Cluster 0 VDD (0.8V)", K20 VDDC0_K20 (power) "Cluster 0 VDD (0.8V)", L19 VDDC0_L19 (power) "Cluster 0 VDD (0.8V)", L20 VDDC0_L20 (power) "Cluster 0 VDD (0.8V)", M19 VDDC0_M19 (power) "Cluster 0 VDD (0.8V)", M20 VDDC0_M20 (power) "Cluster 0 VDD (0.8V)", N21 VDDC0_N21 (power) "Cluster 0 VDD (0.8V)", N22 VDDC0_N22 (power) "Cluster 0 VDD (0.8V)", P21 VDDC0_P21 (power) "Cluster 0 VDD (0.8V)", P22 VDDC0_P22 (power) "Cluster 0 VDD (0.8V)", Q21 VDDC0_Q21 (power) "Cluster 0 VDD (0.8V)", Q22 VDDC0_Q22 (power) "Cluster 0 VDD (0.8V)", R21 VDDC0_R21 (power) "Cluster 0 VDD (0.8V)", R22 VDDC0_R22 (power) "Cluster 0 VDD (0.8V)"
part M pins: E17 VDDC1_E17 (power) "Cluster 1 VDD (0.8V)", E18 VDDC1_E18 (power) "Cluster 1 VDD (0.8V)", F17 VDDC1_F17 (power) "Cluster 1 VDD (0.8V)", F18 VDDC1_F18 (power) "Cluster 1 VDD (0.8V)", G17 VDDC1_G17 (power) "Cluster 1 VDD (0.8V)", G18 VDDC1_G18 (power) "Cluster 1 VDD (0.8V)", H17 VDDC1_H17 (power) "Cluster 1 VDD (0.8V)", H18 VDDC1_H18 (power) "Cluster 1 VDD (0.8V)", J15 VDDC1_J15 (power) "Cluster 1 VDD (0.8V)", J16 VDDC1_J16 (power) "Cluster 1 VDD (0.8V)", K15 VDDC1_K15 (power) "Cluster 1 VDD (0.8V)", K16 VDDC1_K16 (power) "Cluster 1 VDD (0.8V)", L15 VDDC1_L15 (power) "Cluster 1 VDD (0.8V)", L16 VDDC1_L16 (power) "Cluster 1 VDD (0.8V)", M15 VDDC1_M15 (power) "Cluster 1 VDD (0.8V)", M16 VDDC1_M16 (power) "Cluster 1 VDD (0.8V)", N17 VDDC1_N17 (power) "Cluster 1 VDD (0.8V)", N18 VDDC1_N18 (power) "Cluster 1 VDD (0.8V)", P17 VDDC1_P17 (power) "Cluster 1 VDD (0.8V)", P18 VDDC1_P18 (power) "Cluster 1 VDD (0.8V)", Q17 VDDC1_Q17 (power) "Cluster 1 VDD (0.8V)", Q18 VDDC1_Q18 (power) "Cluster 1 VDD (0.8V)", R17 VDDC1_R17 (power) "Cluster 1 VDD (0.8V)", R18 VDDC1_R18 (power) "Cluster 1 VDD (0.8V)"
part N pins: E13 VDDC2_E13 (power) "Cluster 2 VDD (0.8V)", E14 VDDC2_E14 (power) "Cluster 2 VDD (0.8V)", F13 VDDC2_F13 (power) "Cluster 2 VDD (0.8V)", F14 VDDC2_F14 (power) "Cluster 2 VDD (0.8V)", G13 VDDC2_G13 (power) "Cluster 2 VDD (0.8V)", G14 VDDC2_G14 (power) "Cluster 2 VDD (0.8V)", H13 VDDC2_H13 (power) "Cluster 2 VDD (0.8V)", H14 VDDC2_H14 (power) "Cluster 2 VDD (0.8V)", J11 VDDC2_J11 (power) "Cluster 2 VDD (0.8V)", J12 VDDC2_J12 (power) "Cluster 2 VDD (0.8V)", K11 VDDC2_K11 (power) "Cluster 2 VDD (0.8V)", K12 VDDC2_K12 (power) "Cluster 2 VDD (0.8V)", L11 VDDC2_L11 (power) "Cluster 2 VDD (0.8V)", L12 VDDC2_L12 (power) "Cluster 2 VDD (0.8V)", M11 VDDC2_M11 (power) "Cluster 2 VDD (0.8V)", M12 VDDC2_M12 (power) "Cluster 2 VDD (0.8V)", N13 VDDC2_N13 (power) "Cluster 2 VDD (0.8V)", N14 VDDC2_N14 (power) "Cluster 2 VDD (0.8V)", P13 VDDC2_P13 (power) "Cluster 2 VDD (0.8V)", P14 VDDC2_P14 (power) "Cluster 2 VDD (0.8V)", Q13 VDDC2_Q13 (power) "Cluster 2 VDD (0.8V)", Q14 VDDC2_Q14 (power) "Cluster 2 VDD (0.8V)", R13 VDDC2_R13 (power) "Cluster 2 VDD (0.8V)", R14 VDDC2_R14 (power) "Cluster 2 VDD (0.8V)"
part O pins: E9 VDDC3_E09 (power) "Cluster 3 VDD (0.8V)", E10 VDDC3_E10 (power) "Cluster 3 VDD (0.8V)", F9 VDDC3_F09 (power) "Cluster 3 VDD (0.8V)", F10 VDDC3_F10 (power) "Cluster 3 VDD (0.8V)", G9 VDDC3_G09 (power) "Cluster 3 VDD (0.8V)", G10 VDDC3_G10 (power) "Cluster 3 VDD (0.8V)", H9 VDDC3_H09 (power) "Cluster 3 VDD (0.8V)", H10 VDDC3_H10 (power) "Cluster 3 VDD (0.8V)", J7 VDDC3_J07 (power) "Cluster 3 VDD (0.8V)", J8 VDDC3_J08 (power) "Cluster 3 VDD (0.8V)", K7 VDDC3_K07 (power) "Cluster 3 VDD (0.8V)", K8 VDDC3_K08 (power) "Cluster 3 VDD (0.8V)", L7 VDDC3_L07 (power) "Cluster 3 VDD (0.8V)", L8 VDDC3_L08 (power) "Cluster 3 VDD (0.8V)", M7 VDDC3_M07 (power) "Cluster 3 VDD (0.8V)", M8 VDDC3_M08 (power) "Cluster 3 VDD (0.8V)", N9 VDDC3_N09 (power) "Cluster 3 VDD (0.8V)", N10 VDDC3_N10 (power) "Cluster 3 VDD (0.8V)", P9 VDDC3_P09 (power) "Cluster 3 VDD (0.8V)", P10 VDDC3_P10 (power) "Cluster 3 VDD (0.8V)", Q9 VDDC3_Q09 (power) "Cluster 3 VDD (0.8V)", Q10 VDDC3_Q10 (power) "Cluster 3 VDD (0.8V)", R9 VDDC3_R09 (power) "Cluster 3 VDD (0.8V)", R10 VDDC3_R10 (power) "Cluster 3 VDD (0.8V)"
part P pins: AA2 VDDA1_AA02 (power) "SerDes VDD (0.9V)", AA3 VDDA1_AA03 (power) "SerDes VDD (0.9V)", AA26 VDDA0_AA26 (power) "SerDes VDD (0.9V)", AA27 VDDA0_AA27 (power) "SerDes VDD (0.9V)", C2 VDDA1_C02 (power) "SerDes VDD (0.9V)", C3 VDDA1_C03 (power) "SerDes VDD (0.9V)", C26 VDDA0_C26 (power) "SerDes VDD (0.9V)", C27 VDDA0_C27 (power) "SerDes VDD (0.9V)", D2 VDDA1_D02 (power) "SerDes VDD (0.9V)", D3 VDDA1_D03 (power) "SerDes VDD (0.9V)", D26 VDDA0_D26 (power) "SerDes VDD (0.9V)", D27 VDDA0_D27 (power) "SerDes VDD (0.9V)", F2 VDDA1_F02 (power) "SerDes VDD (0.9V)", F3 VDDA1_F03 (power) "SerDes VDD (0.9V)", F26 VDDA0_F26 (power) "SerDes VDD (0.9V)", F27 VDDA0_F27 (power) "SerDes VDD (0.9V)", G2 VDDA1_G02 (power) "SerDes VDD (0.9V)", G3 VDDA1_G03 (power) "SerDes VDD (0.9V)", G26 VDDA0_G26 (power) "SerDes VDD (0.9V)", G27 VDDA0_G27 (power) "SerDes VDD (0.9V)", J2 VDDA1_J02 (power) "SerDes VDD (0.9V)", J3 VDDA1_J03 (power) "SerDes VDD (0.9V)", J26 VDDA0_J26 (power) "SerDes VDD (0.9V)", J27 VDDA0_J27 (power) "SerDes VDD (0.9V)", K2 VDDA1_K02 (power) "SerDes VDD (0.9V)", K3 VDDA1_K03 (power) "SerDes VDD (0.9V)", K26 VDDA0_K26 (power) "SerDes VDD (0.9V)", K27 VDDA0_K27 (power) "SerDes VDD (0.9V)", M2 VDDA1_M02 (power) "SerDes VDD (0.9V)", M3 VDDA1_M03 (power) "SerDes VDD (0.9V)", M26 VDDA0_M26 (power) "SerDes VDD (0.9V)", M27 VDDA0_M27 (power) "SerDes VDD (0.9V)", N2 VDDA1_N02 (power) "SerDes VDD (0.9V)", N3 VDDA1_N03 (power) "SerDes VDD (0.9V)", N26 VDDA0_N26 (power) "SerDes VDD (0.9V)", N27 VDDA0_N27 (power) "SerDes VDD (0.9V)", Q2 VDDA1_Q02 (power) "SerDes VDD (0.9V)", Q3 VDDA1_Q03 (power) "SerDes VDD (0.9V)", Q26 VDDA0_Q26 (power) "SerDes VDD (0.9V)", Q27 VDDA0_Q27 (power) "SerDes VDD (0.9V)", R2 VDDA1_R02 (power) "SerDes VDD (0.9V)", R3 VDDA1_R03 (power) "SerDes VDD (0.9V)", R26 VDDA0_R26 (power) "SerDes VDD (0.9V)", R27 VDDA0_R27 (power) "SerDes VDD (0.9V)", T2 VDDA1_T02 (power) "SerDes VDD (0.9V)", T3 VDDA1_T03 (power) "SerDes VDD (0.9V)", T26 VDDA0_T26 (power) "SerDes VDD (0.9V)", T27 VDDA0_T27 (power) "SerDes VDD (0.9V)", U2 VDDA1_U02 (power) "SerDes VDD (0.9V)", U3 VDDA1_U03 (power) "SerDes VDD (0.9V)", U26 VDDA0_U26 (power) "SerDes VDD (0.9V)", U27 VDDA0_U27 (power) "SerDes VDD (0.9V)", W2 VDDA1_W02 (power) "SerDes VDD (0.9V)", W3 VDDA1_W03 (power) "SerDes VDD (0.9V)", W26 VDDA0_W26 (power) "SerDes VDD (0.9V)", W27 VDDA0_W27 (power) "SerDes VDD (0.9V)", X2 VDDA1_X02 (power) "SerDes VDD (0.9V)", X3 VDDA1_X03 (power) "SerDes VDD (0.9V)", X26 VDDA0_X26 (power) "SerDes VDD (0.9V)", X27 VDDA0_X27 (power) "SerDes VDD (0.9V)", Z2 VDDA1_Z02 (power) "SerDes VDD (0.9V)", Z3 VDDA1_Z03 (power) "SerDes VDD (0.9V)", Z26 VDDA0_Z26 (power) "SerDes VDD (0.9V)", Z27 VDDA0_Z27 (power) "SerDes VDD (0.9V)"

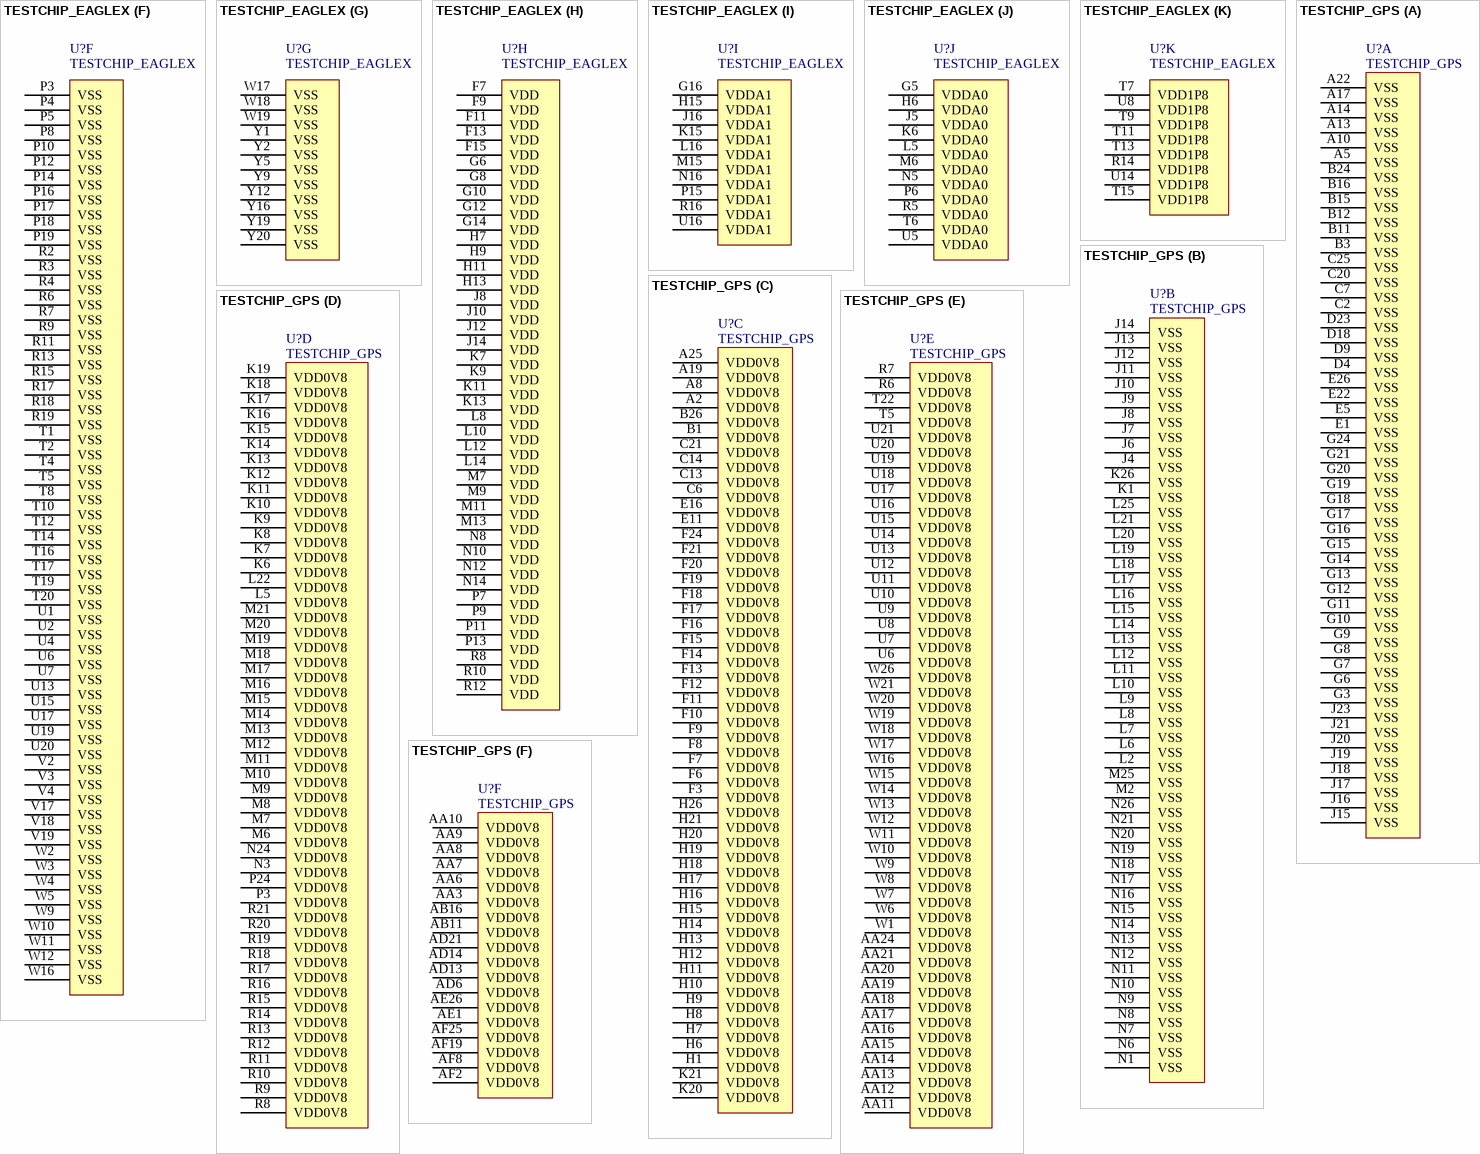
[diagram p15: symbols TESTCHIP_EAGLEX to TESTCHIP_GPS]

## TESTCHIP_EAGLEX
designator U?
TESTCHIP EAGLE-X in BGA package
part A pins: A3 SPI_CS_0 (out) "SPI Chip Select", A4 SPI_DQ_1 (io) "SPI MISO (Master In, Slave Out)", A14 GPIO_PINS_4 (io) "General-Purpose Programmable IO", A15 GPIO_PINS_2 (io) "General-Purpose Programmable IO", A16 I2C_SDA (oc) "I2C Data", A17 I2C_SCL (oc) "I2C Clock", B3 SPI_SCK (out) "SPI Clock", B4 SPI_DQ_0 (io) "SPI MOSI (Master Out, Slave In)", B13 SPI_DQ_3 (io) "SPI data (QSPI only)", B14 SPI_DQ_2 (io) "SPI data (QSPI only)", B15 GPIO_PINS_3 (io) "General-Purpose Programmable IO", B16 GPIO_PINS_1 (io) "General-Purpose Programmable IO", U9 UART_TXD (out) "UART TX", U10 PLLCLK_OUT (out) "PLL Clock Out", U11 TL_SERIAL_CLOCK (out) "LBWIF Clock", U12 TL_SERIAL_IN_READY (out) "LBWIF Data In Ready", V5 GPIO_PINS_0 (io) "General-Purpose Programmable IO", V6 JTAG_TDO (out) "JTAG Test Data Out", V7 JTAG_TCK (in) "JTAG Clock", V8 CCLK_2 (in) "Cluster Backup Clock 2", V9 UART_RXD (in) "UART RX", V10 BOOT (in) "Active-High Boot From SD Card", V11 RESET (in) "SPI Reset", V12 TL_SERIAL_IN_VALID (in) "LBWIF Data In Valid", V13 TL_SERIAL_IN_BITS[3] (in) "LBWIF Data In Bit 3", V14 TL_SERIAL_IN_BITS[0] (in) "LBWIF Data In Bit 0", V15 TL_SERIAL_OUT_BITS[1] (out) "LBWIF Data Out Bit 1", V16 TL_SERIAL_OUT_BITS[0] (out) "LBWIF Data Out Bit 0", W6 JTAG_TDI (in) "JTAG Test Data In", W7 CLK_SEL[1] (in) "Uncluster Clock Select Bit 1", W8 CCLK_1 (in) "Cluster Backup Clock 1", W13 TL_SERIAL_OUT_READY (in) "LBWIF Data Out Ready", W14 TL_SERIAL_IN_BITS[1] (in) "LBWIF Data In Bit 1", W15 TL_SERIAL_OUT_BITS[2] (out) "LBWIF Data Out Bit 2", Y3 REFCLK_2_N (in) "PLL Reference Clock (+)", Y4 REFCLK_2_P (in) "PLL Reference Clock (-)", Y6 JTAG_TMS (in) "JTAG Test Mode Select", Y7 CLK_SEL[0] (in) "Uncluster Clock Select Bit 0", Y8 CCLK_0 (in) "Cluster Backup Clock 0", Y10 REFCLK_0_N (in) "HBWIF Bank 0 Reference Clock (+)", Y11 REFCLK_0_P (in) "HBWIF Bank 0 Reference Clock (-)", Y13 TL_SERIAL_OUT_VALID (out) "LBWIF Data Out Valid", Y14 TL_SERIAL_IN_BITS[2] (in) "LBWIF Data In Bit 2", Y15 TL_SERIAL_OUT_BITS[3] (out) "LBWIF Data Out Bit 3", Y17 REFCLK_1_N (in) "HBWIF Bank 1 Reference Clock (+)", Y18 REFCLK_1_P (in) "HBWIF Bank 1 Reference Clock (-)"
part B pins: D3 HBWIF_RX_7_P (in) "HBWIF RX Lane 7 (+)", D18 HBWIF_RX_0_P (in) "HBWIF RX Lane 0 (+)", E3 HBWIF_RX_7_N (in) "HBWIF RX Lane 7 (-)", E18 HBWIF_RX_0_N (in) "HBWIF RX Lane 0 (-)", F1 HBWIF_TX_7_P (out) "HBWIF TX Lane 7 (+)", F20 HBWIF_TX_0_P (out) "HBWIF TX Lane 0 (+)", G1 HBWIF_TX_7_N (out) "HBWIF TX Lane 7 (-)", G20 HBWIF_TX_0_N (out) "HBWIF TX Lane 0 (-)", H3 HBWIF_RX_6_P (in) "HBWIF RX Lane 6 (+)", H18 HBWIF_RX_1_P (in) "HBWIF RX Lane 1 (+)", J3 HBWIF_RX_6_N (in) "HBWIF RX Lane 6 (-)", J18 HBWIF_RX_1_N (in) "HBWIF RX Lane 1 (-)", K1 HBWIF_TX_6_P (out) "HBWIF TX Lane 6 (+)", K20 HBWIF_TX_1_P (out) "HBWIF TX Lane 1 (+)", L1 HBWIF_TX_6_N (out) "HBWIF TX Lane 6 (-)", L20 HBWIF_TX_1_N (out) "HBWIF TX Lane 1 (-)", M3 HBWIF_RX_5_P (in) "HBWIF RX Lane 5 (+)", M18 HBWIF_RX_2_P (in) "HBWIF RX Lane 2 (+)", N3 HBWIF_RX_5_N (in) "HBWIF RX Lane 5 (-)", N18 HBWIF_RX_2_N (in) "HBWIF RX Lane 2 (-)", P1 HBWIF_TX_5_P (out) "HBWIF TX Lane 5 (+)", P20 HBWIF_TX_2_P (out) "HBWIF TX Lane 2 (+)", R1 HBWIF_TX_5_N (out) "HBWIF TX Lane 5 (-)", R20 HBWIF_TX_2_N (out) "HBWIF TX Lane 2 (-)", T3 HBWIF_RX_4_P (in) "HBWIF RX Lane 4 (+)", T18 HBWIF_RX_3_P (in) "HBWIF RX Lane 3 (+)", U3 HBWIF_RX_4_N (in) "HBWIF RX Lane 4 (-)", U18 HBWIF_RX_3_N (in) "HBWIF RX Lane 3 (-)", V1 HBWIF_TX_4_P (out) "HBWIF TX Lane 4 (+)", V20 HBWIF_TX_3_P (out) "HBWIF TX Lane 3 (+)", W1 HBWIF_TX_4_N (out) "HBWIF TX Lane 4 (-)", W20 HBWIF_TX_3_N (out) "HBWIF TX Lane 3 (-)"
part C pins: A2 VSS (power), A5 VSS (power), A6 VSS (power), A7 VSS (power), A8 VSS (power), A9 VSS (power), A10 VSS (power), A11 VSS (power), A12 VSS (power), A13 VSS (power), A18 VSS (power), A19 VSS (power), A20 VSS (power), B1 VSS (power), B2 VSS (power), B5 VSS (power), B6 VSS (power), B7 VSS (power), B8 VSS (power), B9 VSS (power), B10 VSS (power), B11 VSS (power), B12 VSS (power), B17 VSS (power), B18 VSS (power), B19 VSS (power), B20 VSS (power), C1 VSS (power), C2 VSS (power), C3 VSS (power), C4 VSS (power), C5 VSS (power), C6 VSS (power), C7 VSS (power), C8 VSS (power), C9 VSS (power), C10 VSS (power), C11 VSS (power), C12 VSS (power), C13 VSS (power), C14 VSS (power), C15 VSS (power), C16 VSS (power), C17 VSS (power), C18 VSS (power), C19 VSS (power), C20 VSS (power), D1 VSS (power), D2 VSS (power), D4 VSS (power), D5 VSS (power), D6 VSS (power), D7 VSS (power), D8 VSS (power), D9 VSS (power), D10 VSS (power), D11 VSS (power), D12 VSS (power), D13 VSS (power), D14 VSS (power)
part D pins: D15 VSS (power), D16 VSS (power), D17 VSS (power), D19 VSS (power), D20 VSS (power), E1 VSS (power), E2 VSS (power), E4 VSS (power), E5 VSS (power), E6 VSS (power), E7 VSS (power), E8 VSS (power), E9 VSS (power), E10 VSS (power), E11 VSS (power), E12 VSS (power), E13 VSS (power), E14 VSS (power), E15 VSS (power), E16 VSS (power), E17 VSS (power), E19 VSS (power), E20 VSS (power), F2 VSS (power), F3 VSS (power), F4 VSS (power), F5 VSS (power), F6 VSS (power), F8 VSS (power), F10 VSS (power), F12 VSS (power), F14 VSS (power), F16 VSS (power), F17 VSS (power), F18 VSS (power), F19 VSS (power), G2 VSS (power), G3 VSS (power), G4 VSS (power), G7 VSS (power), G9 VSS (power), G11 VSS (power), G13 VSS (power), G15 VSS (power), G17 VSS (power), G18 VSS (power), G19 VSS (power), H1 VSS (power), H2 VSS (power), H4 VSS (power), H5 VSS (power), H8 VSS (power), H10 VSS (power), H12 VSS (power), H14 VSS (power), H16 VSS (power), H17 VSS (power), H19 VSS (power), H20 VSS (power), J1 VSS (power)
part E pins: J2 VSS (power), J4 VSS (power), J6 VSS (power), J7 VSS (power), J9 VSS (power), J11 VSS (power), J13 VSS (power), J15 VSS (power), J17 VSS (power), J19 VSS (power), J20 VSS (power), K2 VSS (power), K3 VSS (power), K4 VSS (power), K5 VSS (power), K8 VSS (power), K10 VSS (power), K12 VSS (power), K14 VSS (power), K16 VSS (power), K17 VSS (power), K18 VSS (power), K19 VSS (power), L2 VSS (power), L3 VSS (power), L4 VSS (power), L6 VSS (power), L7 VSS (power), L9 VSS (power), L11 VSS (power), L13 VSS (power), L15 VSS (power), L17 VSS (power), L18 VSS (power), L19 VSS (power), M1 VSS (power), M2 VSS (power), M4 VSS (power), M5 VSS (power), M8 VSS (power), M10 VSS (power), M12 VSS (power), M14 VSS (power), M16 VSS (power), M17 VSS (power), M19 VSS (power), M20 VSS (power), N1 VSS (power), N2 VSS (power), N4 VSS (power), N6 VSS (power), N7 VSS (power), N9 VSS (power), N11 VSS (power), N13 VSS (power), N15 VSS (power), N17 VSS (power), N19 VSS (power), N20 VSS (power), P2 VSS (power)
part F pins: P3 VSS (power), P4 VSS (power), P5 VSS (power), P8 VSS (power), P10 VSS (power), P12 VSS (power), P14 VSS (power), P16 VSS (power), P17 VSS (power), P18 VSS (power), P19 VSS (power), R2 VSS (power), R3 VSS (power), R4 VSS (power), R6 VSS (power), R7 VSS (power), R9 VSS (power), R11 VSS (power), R13 VSS (power), R15 VSS (power), R17 VSS (power), R18 VSS (power), R19 VSS (power), T1 VSS (power), T2 VSS (power), T4 VSS (power), T5 VSS (power), T8 VSS (power), T10 VSS (power), T12 VSS (power), T14 VSS (power), T16 VSS (power), T17 VSS (power), T19 VSS (power), T20 VSS (power), U1 VSS (power), U2 VSS (power), U4 VSS (power), U6 VSS (power), U7 VSS (power), U13 VSS (power), U15 VSS (power), U17 VSS (power), U19 VSS (power), U20 VSS (power), V2 VSS (power), V3 VSS (power), V4 VSS (power), V17 VSS (power), V18 VSS (power), V19 VSS (power), W2 VSS (power), W3 VSS (power), W4 VSS (power), W5 VSS (power), W9 VSS (power), W10 VSS (power), W11 VSS (power), W12 VSS (power), W16 VSS (power)
part G pins: W17 VSS (power), W18 VSS (power), W19 VSS (power), Y1 VSS (power), Y2 VSS (power), Y5 VSS (power), Y9 VSS (power), Y12 VSS (power), Y16 VSS (power), Y19 VSS (power), Y20 VSS (power)
part H pins: F7 VDD (power) "VDD (0.8V)", F9 VDD (power) "VDD (0.8V)", F11 VDD (power) "VDD (0.8V)", F13 VDD (power) "VDD (0.8V)", F15 VDD (power) "VDD (0.8V)", G6 VDD (power) "VDD (0.8V)", G8 VDD (power) "VDD (0.8V)", G10 VDD (power) "VDD (0.8V)", G12 VDD (power) "VDD (0.8V)", G14 VDD (power) "VDD (0.8V)", H7 VDD (power) "VDD (0.8V)", H9 VDD (power) "VDD (0.8V)", H11 VDD (power) "VDD (0.8V)", H13 VDD (power) "VDD (0.8V)", J8 VDD (power) "VDD (0.8V)", J10 VDD (power) "VDD (0.8V)", J12 VDD (power) "VDD (0.8V)", J14 VDD (power) "VDD (0.8V)", K7 VDD (power) "VDD (0.8V)", K9 VDD (power) "VDD (0.8V)", K11 VDD (power) "VDD (0.8V)", K13 VDD (power) "VDD (0.8V)", L8 VDD (power) "VDD (0.8V)", L10 VDD (power) "VDD (0.8V)", L12 VDD (power) "VDD (0.8V)", L14 VDD (power) "VDD (0.8V)", M7 VDD (power) "VDD (0.8V)", M9 VDD (power) "VDD (0.8V)", M11 VDD (power) "VDD (0.8V)", M13 VDD (power) "VDD (0.8V)", N8 VDD (power) "VDD (0.8V)", N10 VDD (power) "VDD (0.8V)", N12 VDD (power) "VDD (0.8V)", N14 VDD (power) "VDD (0.8V)", P7 VDD (power) "VDD (0.8V)", P9 VDD (power) "VDD (0.8V)", P11 VDD (power) "VDD (0.8V)", P13 VDD (power) "VDD (0.8V)", R8 VDD (power) "VDD (0.8V)", R10 VDD (power) "VDD (0.8V)", R12 VDD (power) "VDD (0.8V)"
part I pins: G16 VDDA1 (power) "VDDA Bank 0 (0.9V)", H15 VDDA1 (power) "VDDA Bank 0 (0.9V)", J16 VDDA1 (power) "VDDA Bank 0 (0.9V)", K15 VDDA1 (power) "VDDA Bank 0 (0.9V)", L16 VDDA1 (power) "VDDA Bank 0 (0.9V)", M15 VDDA1 (power) "VDDA Bank 0 (0.9V)", N16 VDDA1 (power) "VDDA Bank 0 (0.9V)", P15 VDDA1 (power) "VDDA Bank 0 (0.9V)", R16 VDDA1 (power) "VDDA Bank 0 (0.9V)", U16 VDDA1 (power) "VDDA Bank 0 (0.9V)"
part J pins: G5 VDDA0 (power) "VDDA Bank 1 (0.9V)", H6 VDDA0 (power) "VDDA Bank 1 (0.9V)", J5 VDDA0 (power) "VDDA Bank 1 (0.9V)", K6 VDDA0 (power) "VDDA Bank 1 (0.9V)", L5 VDDA0 (power) "VDDA Bank 1 (0.9V)", M6 VDDA0 (power) "VDDA Bank 1 (0.9V)", N5 VDDA0 (power) "VDDA Bank 1 (0.9V)", P6 VDDA0 (power) "VDDA Bank 1 (0.9V)", R5 VDDA0 (power) "VDDA Bank 1 (0.9V)", T6 VDDA0 (power) "VDDA Bank 1 (0.9V)", U5 VDDA0 (power) "VDDA Bank 1 (0.9V)"
part K pins: R14 VDD1P8 (power) "VDD1P8 (1.8V)", T7 VDD1P8 (power) "VDD1P8 (1.8V)", T9 VDD1P8 (power) "VDD1P8 (1.8V)", T11 VDD1P8 (power) "VDD1P8 (1.8V)", T13 VDD1P8 (power) "VDD1P8 (1.8V)", T15 VDD1P8 (power) "VDD1P8 (1.8V)", U8 VDD1P8 (power) "VDD1P8 (1.8V)", U14 VDD1P8 (power) "VDD1P8 (1.8V)"

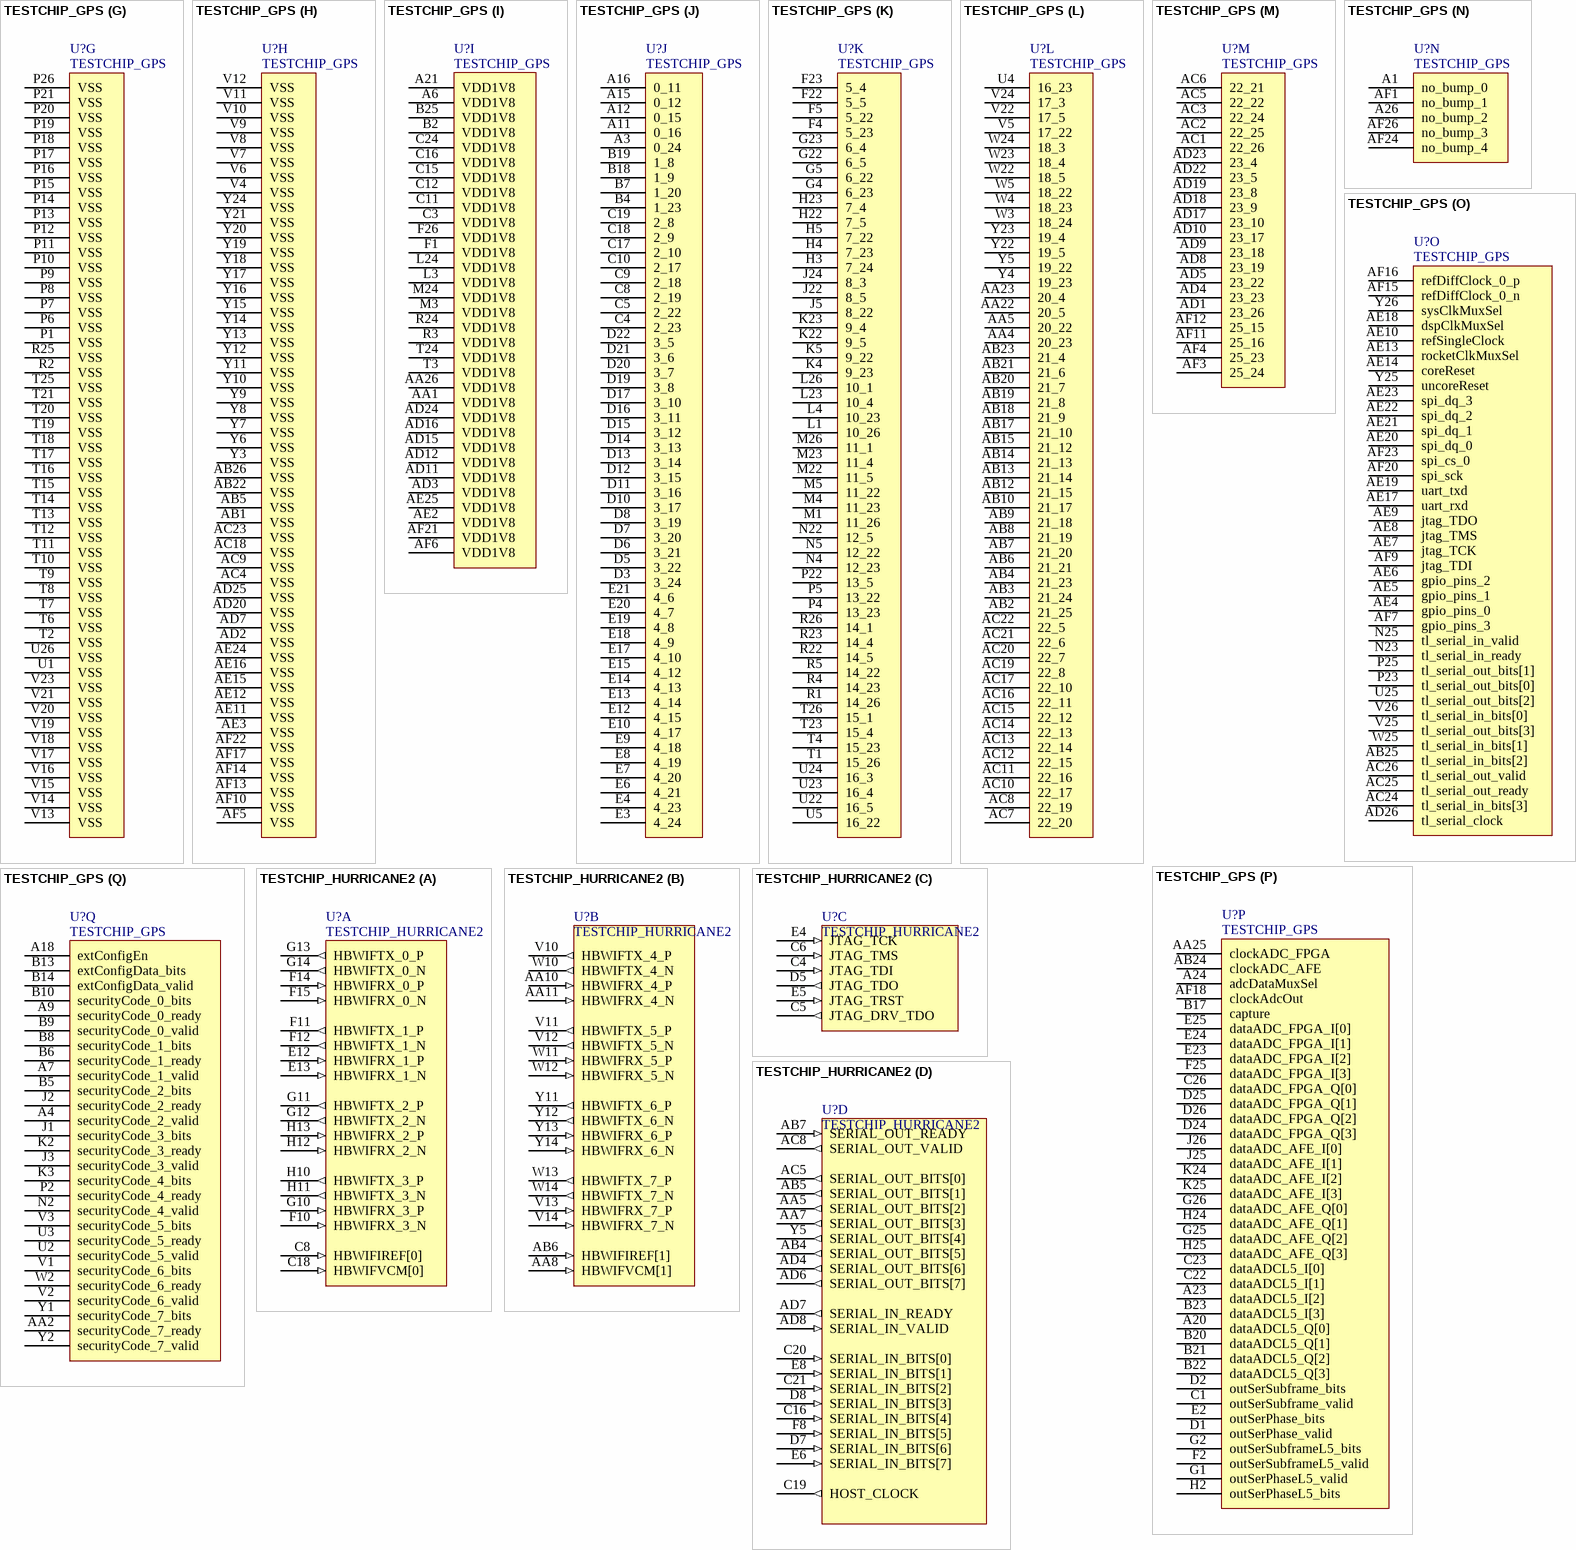
[diagram p16: symbols TESTCHIP_GPS to TESTCHIP_HURRICANE2]

## TESTCHIP_GPS
designator U?
TESTCHIP GPS
part A pins: A5 VSS, A10 VSS, A13 VSS, A14 VSS, A17 VSS, A22 VSS, B3 VSS, B11 VSS, B12 VSS, B15 VSS, B16 VSS, B24 VSS, C2 VSS, C7 VSS, C20 VSS, C25 VSS, D4 VSS, D9 VSS, D18 VSS, D23 VSS, E1 VSS, E5 VSS, E22 VSS, E26 VSS, G3 VSS, G6 VSS, G7 VSS, G8 VSS, G9 VSS, G10 VSS, G11 VSS, G12 VSS, G13 VSS, G14 VSS, G15 VSS, G16 VSS, G17 VSS, G18 VSS, G19 VSS, G20 VSS, G21 VSS, G24 VSS, J15 VSS, J16 VSS, J17 VSS, J18 VSS, J19 VSS, J20 VSS, J21 VSS, J23 VSS
part B pins: J4 VSS, J6 VSS, J7 VSS, J8 VSS, J9 VSS, J10 VSS, J11 VSS, J12 VSS, J13 VSS, J14 VSS, K1 VSS, K26 VSS, L2 VSS, L6 VSS, L7 VSS, L8 VSS, L9 VSS, L10 VSS, L11 VSS, L12 VSS, L13 VSS, L14 VSS, L15 VSS, L16 VSS, L17 VSS, L18 VSS, L19 VSS, L20 VSS, L21 VSS, L25 VSS, M2 VSS, M25 VSS, N1 VSS, N6 VSS, N7 VSS, N8 VSS, N9 VSS, N10 VSS, N11 VSS, N12 VSS, N13 VSS, N14 VSS, N15 VSS, N16 VSS, N17 VSS, N18 VSS, N19 VSS, N20 VSS, N21 VSS, N26 VSS
part C pins: A2 VDD0V8, A8 VDD0V8, A19 VDD0V8, A25 VDD0V8, B1 VDD0V8, B26 VDD0V8, C6 VDD0V8, C13 VDD0V8, C14 VDD0V8, C21 VDD0V8, E11 VDD0V8, E16 VDD0V8, F3 VDD0V8, F6 VDD0V8, F7 VDD0V8, F8 VDD0V8, F9 VDD0V8, F10 VDD0V8, F11 VDD0V8, F12 VDD0V8, F13 VDD0V8, F14 VDD0V8, F15 VDD0V8, F16 VDD0V8, F17 VDD0V8, F18 VDD0V8, F19 VDD0V8, F20 VDD0V8, F21 VDD0V8, F24 VDD0V8, H1 VDD0V8, H6 VDD0V8, H7 VDD0V8, H8 VDD0V8, H9 VDD0V8, H10 VDD0V8, H11 VDD0V8, H12 VDD0V8, H13 VDD0V8, H14 VDD0V8, H15 VDD0V8, H16 VDD0V8, H17 VDD0V8, H18 VDD0V8, H19 VDD0V8, H20 VDD0V8, H21 VDD0V8, H26 VDD0V8, K20 VDD0V8, K21 VDD0V8
part D pins: K6 VDD0V8, K7 VDD0V8, K8 VDD0V8, K9 VDD0V8, K10 VDD0V8, K11 VDD0V8, K12 VDD0V8, K13 VDD0V8, K14 VDD0V8, K15 VDD0V8, K16 VDD0V8, K17 VDD0V8, K18 VDD0V8, K19 VDD0V8, L5 VDD0V8, L22 VDD0V8, M6 VDD0V8, M7 VDD0V8, M8 VDD0V8, M9 VDD0V8, M10 VDD0V8, M11 VDD0V8, M12 VDD0V8, M13 VDD0V8, M14 VDD0V8, M15 VDD0V8, M16 VDD0V8, M17 VDD0V8, M18 VDD0V8, M19 VDD0V8, M20 VDD0V8, M21 VDD0V8, N3 VDD0V8, N24 VDD0V8, P3 VDD0V8, P24 VDD0V8, R8 VDD0V8, R9 VDD0V8, R10 VDD0V8, R11 VDD0V8, R12 VDD0V8, R13 VDD0V8, R14 VDD0V8, R15 VDD0V8, R16 VDD0V8, R17 VDD0V8, R18 VDD0V8, R19 VDD0V8, R20 VDD0V8, R21 VDD0V8
part E pins: AA11 VDD0V8, AA12 VDD0V8, AA13 VDD0V8, AA14 VDD0V8, AA15 VDD0V8, AA16 VDD0V8, AA17 VDD0V8, AA18 VDD0V8, AA19 VDD0V8, AA20 VDD0V8, AA21 VDD0V8, AA24 VDD0V8, R6 VDD0V8, R7 VDD0V8, T5 VDD0V8, T22 VDD0V8, U6 VDD0V8, U7 VDD0V8, U8 VDD0V8, U9 VDD0V8, U10 VDD0V8, U11 VDD0V8, U12 VDD0V8, U13 VDD0V8, U14 VDD0V8, U15 VDD0V8, U16 VDD0V8, U17 VDD0V8, U18 VDD0V8, U19 VDD0V8, U20 VDD0V8, U21 VDD0V8, W1 VDD0V8, W6 VDD0V8, W7 VDD0V8, W8 VDD0V8, W9 VDD0V8, W10 VDD0V8, W11 VDD0V8, W12 VDD0V8, W13 VDD0V8, W14 VDD0V8, W15 VDD0V8, W16 VDD0V8, W17 VDD0V8, W18 VDD0V8, W19 VDD0V8, W20 VDD0V8, W21 VDD0V8, W26 VDD0V8
part F pins: AA3 VDD0V8, AA6 VDD0V8, AA7 VDD0V8, AA8 VDD0V8, AA9 VDD0V8, AA10 VDD0V8, AB11 VDD0V8, AB16 VDD0V8, AD6 VDD0V8, AD13 VDD0V8, AD14 VDD0V8, AD21 VDD0V8, AE1 VDD0V8, AE26 VDD0V8, AF2 VDD0V8, AF8 VDD0V8, AF19 VDD0V8, AF25 VDD0V8
part G pins: P1 VSS, P6 VSS, P7 VSS, P8 VSS, P9 VSS, P10 VSS, P11 VSS, P12 VSS, P13 VSS, P14 VSS, P15 VSS, P16 VSS, P17 VSS, P18 VSS, P19 VSS, P20 VSS, P21 VSS, P26 VSS, R2 VSS, R25 VSS, T2 VSS, T6 VSS, T7 VSS, T8 VSS, T9 VSS, T10 VSS, T11 VSS, T12 VSS, T13 VSS, T14 VSS, T15 VSS, T16 VSS, T17 VSS, T18 VSS, T19 VSS, T20 VSS, T21 VSS, T25 VSS, U1 VSS, U26 VSS, V13 VSS, V14 VSS, V15 VSS, V16 VSS, V17 VSS, V18 VSS, V19 VSS, V20 VSS, V21 VSS, V23 VSS
part H pins: AB1 VSS, AB5 VSS, AB22 VSS, AB26 VSS, AC4 VSS, AC9 VSS, AC18 VSS, AC23 VSS, AD2 VSS, AD7 VSS, AD20 VSS, AD25 VSS, AE3 VSS, AE11 VSS, AE12 VSS, AE15 VSS, AE16 VSS, AE24 VSS, AF5 VSS, AF10 VSS, AF13 VSS, AF14 VSS, AF17 VSS, AF22 VSS, V4 VSS, V6 VSS, V7 VSS, V8 VSS, V9 VSS, V10 VSS, V11 VSS, V12 VSS, Y3 VSS, Y6 VSS, Y7 VSS, Y8 VSS, Y9 VSS, Y10 VSS, Y11 VSS, Y12 VSS, Y13 VSS, Y14 VSS, Y15 VSS, Y16 VSS, Y17 VSS, Y18 VSS, Y19 VSS, Y20 VSS, Y21 VSS, Y24 VSS
part I pins: A6 VDD1V8, A21 VDD1V8, AA1 VDD1V8, AA26 VDD1V8, AD3 VDD1V8, AD11 VDD1V8, AD12 VDD1V8, AD15 VDD1V8, AD16 VDD1V8, AD24 VDD1V8, AE2 VDD1V8, AE25 VDD1V8, AF6 VDD1V8, AF21 VDD1V8, B2 VDD1V8, B25 VDD1V8, C3 VDD1V8, C11 VDD1V8, C12 VDD1V8, C15 VDD1V8, C16 VDD1V8, C24 VDD1V8, F1 VDD1V8, F26 VDD1V8, L3 VDD1V8, L24 VDD1V8, M3 VDD1V8, M24 VDD1V8, R3 VDD1V8, R24 VDD1V8, T3 VDD1V8, T24 VDD1V8
part J pins: A3 0_24, A11 0_16, A12 0_15, A15 0_12, A16 0_11, B4 1_23, B7 1_20, B18 1_9, B19 1_8, C4 2_23, C5 2_22, C8 2_19, C9 2_18, C10 2_17, C17 2_10, C18 2_9, C19 2_8, D3 3_24, D5 3_22, D6 3_21, D7 3_20, D8 3_19, D10 3_17, D11 3_16, D12 3_15, D13 3_14, D14 3_13, D15 3_12, D16 3_11, D17 3_10, D19 3_8, D20 3_7, D21 3_6, D22 3_5, E3 4_24, E4 4_23, E6 4_21, E7 4_20, E8 4_19, E9 4_18, E10 4_17, E12 4_15, E13 4_14, E14 4_13, E15 4_12, E17 4_10, E18 4_9, E19 4_8, E20 4_7, E21 4_6
part K pins: F4 5_23, F5 5_22, F22 5_5, F23 5_4, G4 6_23, G5 6_22, G22 6_5, G23 6_4, H3 7_24, H4 7_23, H5 7_22, H22 7_5, H23 7_4, J5 8_22, J22 8_5, J24 8_3, K4 9_23, K5 9_22, K22 9_5, K23 9_4, L1 10_26, L4 10_23, L23 10_4, L26 10_1, M1 11_26, M4 11_23, M5 11_22, M22 11_5, M23 11_4, M26 11_1, N4 12_23, N5 12_22, N22 12_5, P4 13_23, P5 13_22, P22 13_5, R1 14_26, R4 14_23, R5 14_22, R22 14_5, R23 14_4, R26 14_1, T1 15_26, T4 15_23, T23 15_4, T26 15_1, U5 16_22, U22 16_5, U23 16_4, U24 16_3
part L pins: AA4 20_23, AA5 20_22, AA22 20_5, AA23 20_4, AB2 21_25, AB3 21_24, AB4 21_23, AB6 21_21, AB7 21_20, AB8 21_19, AB9 21_18, AB10 21_17, AB12 21_15, AB13 21_14, AB14 21_13, AB15 21_12, AB17 21_10, AB18 21_9, AB19 21_8, AB20 21_7, AB21 21_6, AB23 21_4, AC7 22_20, AC8 22_19, AC10 22_17, AC11 22_16, AC12 22_15, AC13 22_14, AC14 22_13, AC15 22_12, AC16 22_11, AC17 22_10, AC19 22_8, AC20 22_7, AC21 22_6, AC22 22_5, U4 16_23, V5 17_22, V22 17_5, V24 17_3, W3 18_24, W4 18_23, W5 18_22, W22 18_5, W23 18_4, W24 18_3, Y4 19_23, Y5 19_22, Y22 19_5, Y23 19_4
part M pins: AC1 22_26, AC2 22_25, AC3 22_24, AC5 22_22, AC6 22_21, AD1 23_26, AD4 23_23, AD5 23_22, AD8 23_19, AD9 23_18, AD10 23_17, AD17 23_10, AD18 23_9, AD19 23_8, AD22 23_5, AD23 23_4, AF3 25_24, AF4 25_23, AF11 25_16, AF12 25_15
part N pins: A1 no_bump_0, A26 no_bump_2, AF1 no_bump_1, AF24 no_bump_4, AF26 no_bump_3
part O pins: AB25 tl_serial_in_bits[2], AC24 tl_serial_in_bits[3], AC25 tl_serial_out_ready, AC26 tl_serial_out_valid, AD26 tl_serial_clock, AE4 gpio_pins_0, AE5 gpio_pins_1, AE6 gpio_pins_2, AE7 jtag_TCK, AE8 jtag_TMS, AE9 jtag_TDO, AE10 refSingleClock, AE13 rocketClkMuxSel, AE14 coreReset, AE17 uart_rxd, AE18 dspClkMuxSel, AE19 uart_txd, AE20 spi_dq_0, AE21 spi_dq_1, AE22 spi_dq_2, AE23 spi_dq_3, AF7 gpio_pins_3, AF9 jtag_TDI, AF15 refDiffClock_0_n, AF16 refDiffClock_0_p, AF20 spi_sck, AF23 spi_cs_0, N23 tl_serial_in_ready, N25 tl_serial_in_valid, P23 tl_serial_out_bits[0], P25 tl_serial_out_bits[1], U25 tl_serial_out_bits[2], V25 tl_serial_out_bits[3], V26 tl_serial_in_bits[0], W25 tl_serial_in_bits[1], Y25 uncoreReset, Y26 sysClkMuxSel
part P pins: A20 dataADCL5_Q[0], A23 dataADCL5_I[2], A24 adcDataMuxSel, AA25 clockADC_FPGA, AB24 clockADC_AFE, AF18 clockAdcOut, B17 capture, B20 dataADCL5_Q[1], B21 dataADCL5_Q[2], B22 dataADCL5_Q[3], B23 dataADCL5_I[3], C1 outSerSubframe_valid, C22 dataADCL5_I[1], C23 dataADCL5_I[0], C26 dataADC_FPGA_Q[0], D1 outSerPhase_valid, D2 outSerSubframe_bits, D24 dataADC_FPGA_Q[3], D25 dataADC_FPGA_Q[1], D26 dataADC_FPGA_Q[2], E2 outSerPhase_bits, E23 dataADC_FPGA_I[2], E24 dataADC_FPGA_I[1], E25 dataADC_FPGA_I[0], F2 outSerSubframeL5_valid, F25 dataADC_FPGA_I[3], G1 outSerPhaseL5_valid, G2 outSerSubframeL5_bits, G25 dataADC_AFE_Q[2], G26 dataADC_AFE_Q[0], H2 outSerPhaseL5_bits, H24 dataADC_AFE_Q[1], H25 dataADC_AFE_Q[3], J25 dataADC_AFE_I[1], J26 dataADC_AFE_I[0], K24 dataADC_AFE_I[2], K25 dataADC_AFE_I[3]
part Q pins: A4 securityCode_2_valid, A7 securityCode_1_valid, A9 securityCode_0_ready, A18 extConfigEn, AA2 securityCode_7_ready, B5 securityCode_2_bits, B6 securityCode_1_ready, B8 securityCode_1_bits, B9 securityCode_0_valid, B10 securityCode_0_bits, B13 extConfigData_bits, B14 extConfigData_valid, J1 securityCode_3_bits, J2 securityCode_2_ready, J3 securityCode_3_valid, K2 securityCode_3_ready, K3 securityCode_4_bits, N2 securityCode_4_valid, P2 securityCode_4_ready, U2 securityCode_5_valid, U3 securityCode_5_ready, V1 securityCode_6_bits, V2 securityCode_6_valid, V3 securityCode_5_bits, W2 securityCode_6_ready, Y1 securityCode_7_bits, Y2 securityCode_7_valid

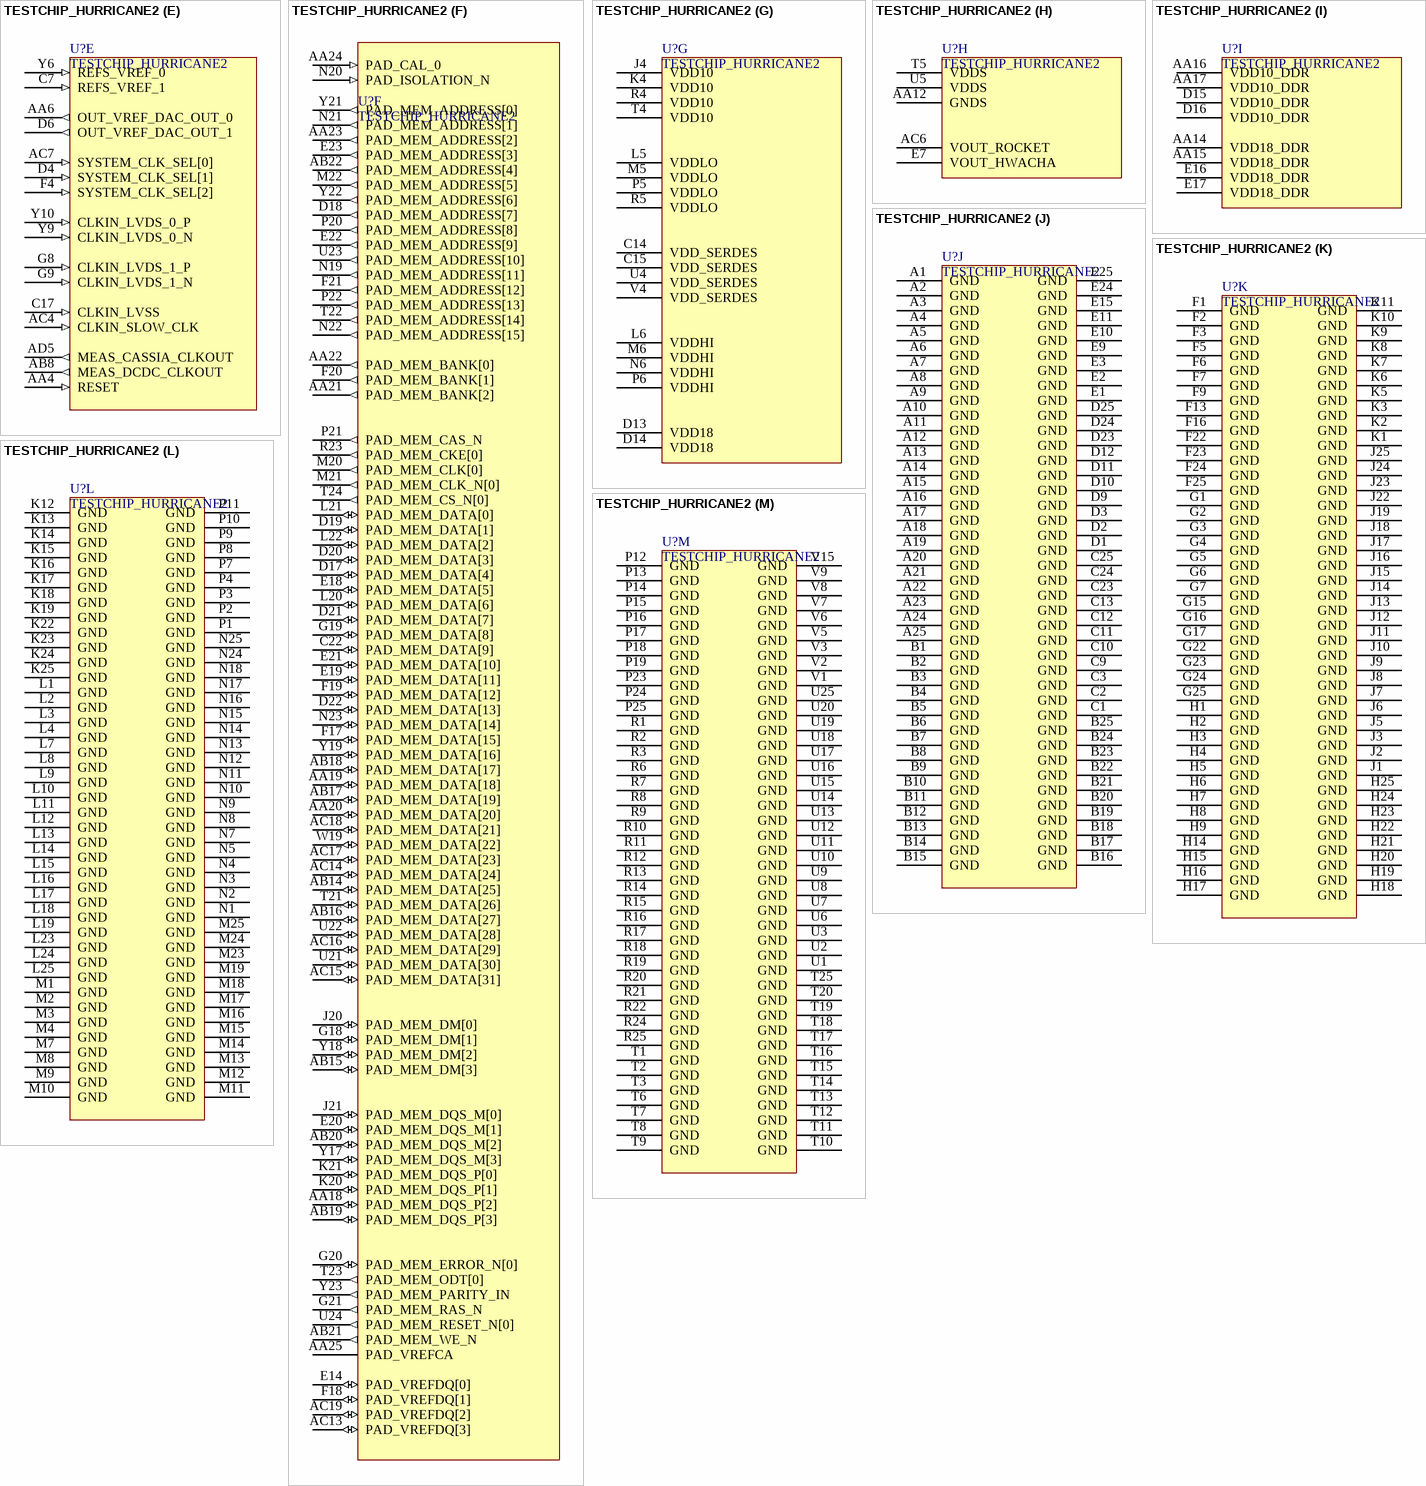
[diagram p17: symbol TESTCHIP_HURRICANE2]

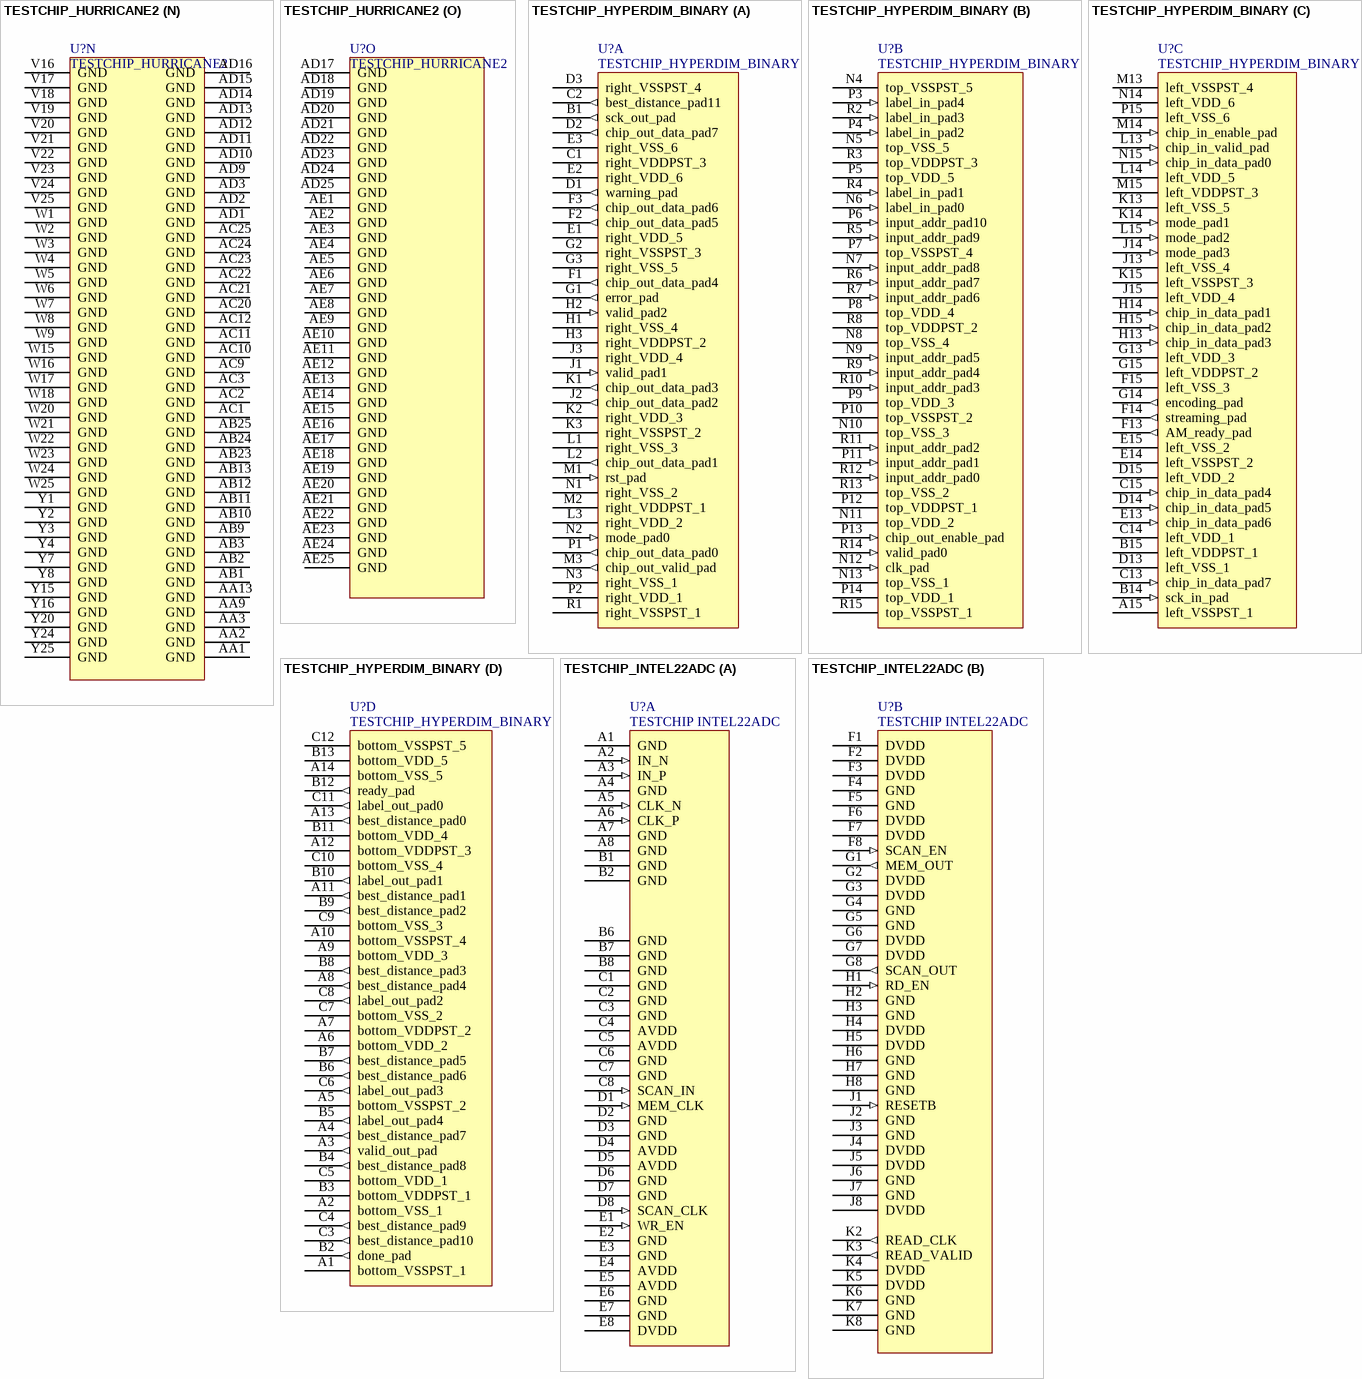
[diagram p18: symbols TESTCHIP_HURRICANE2 to TESTCHIP_INTEL22ADC]